# Altium integrated library Protel DOS Schematic Libraries.IntLib: 1273 symbols (part 5 of 9)
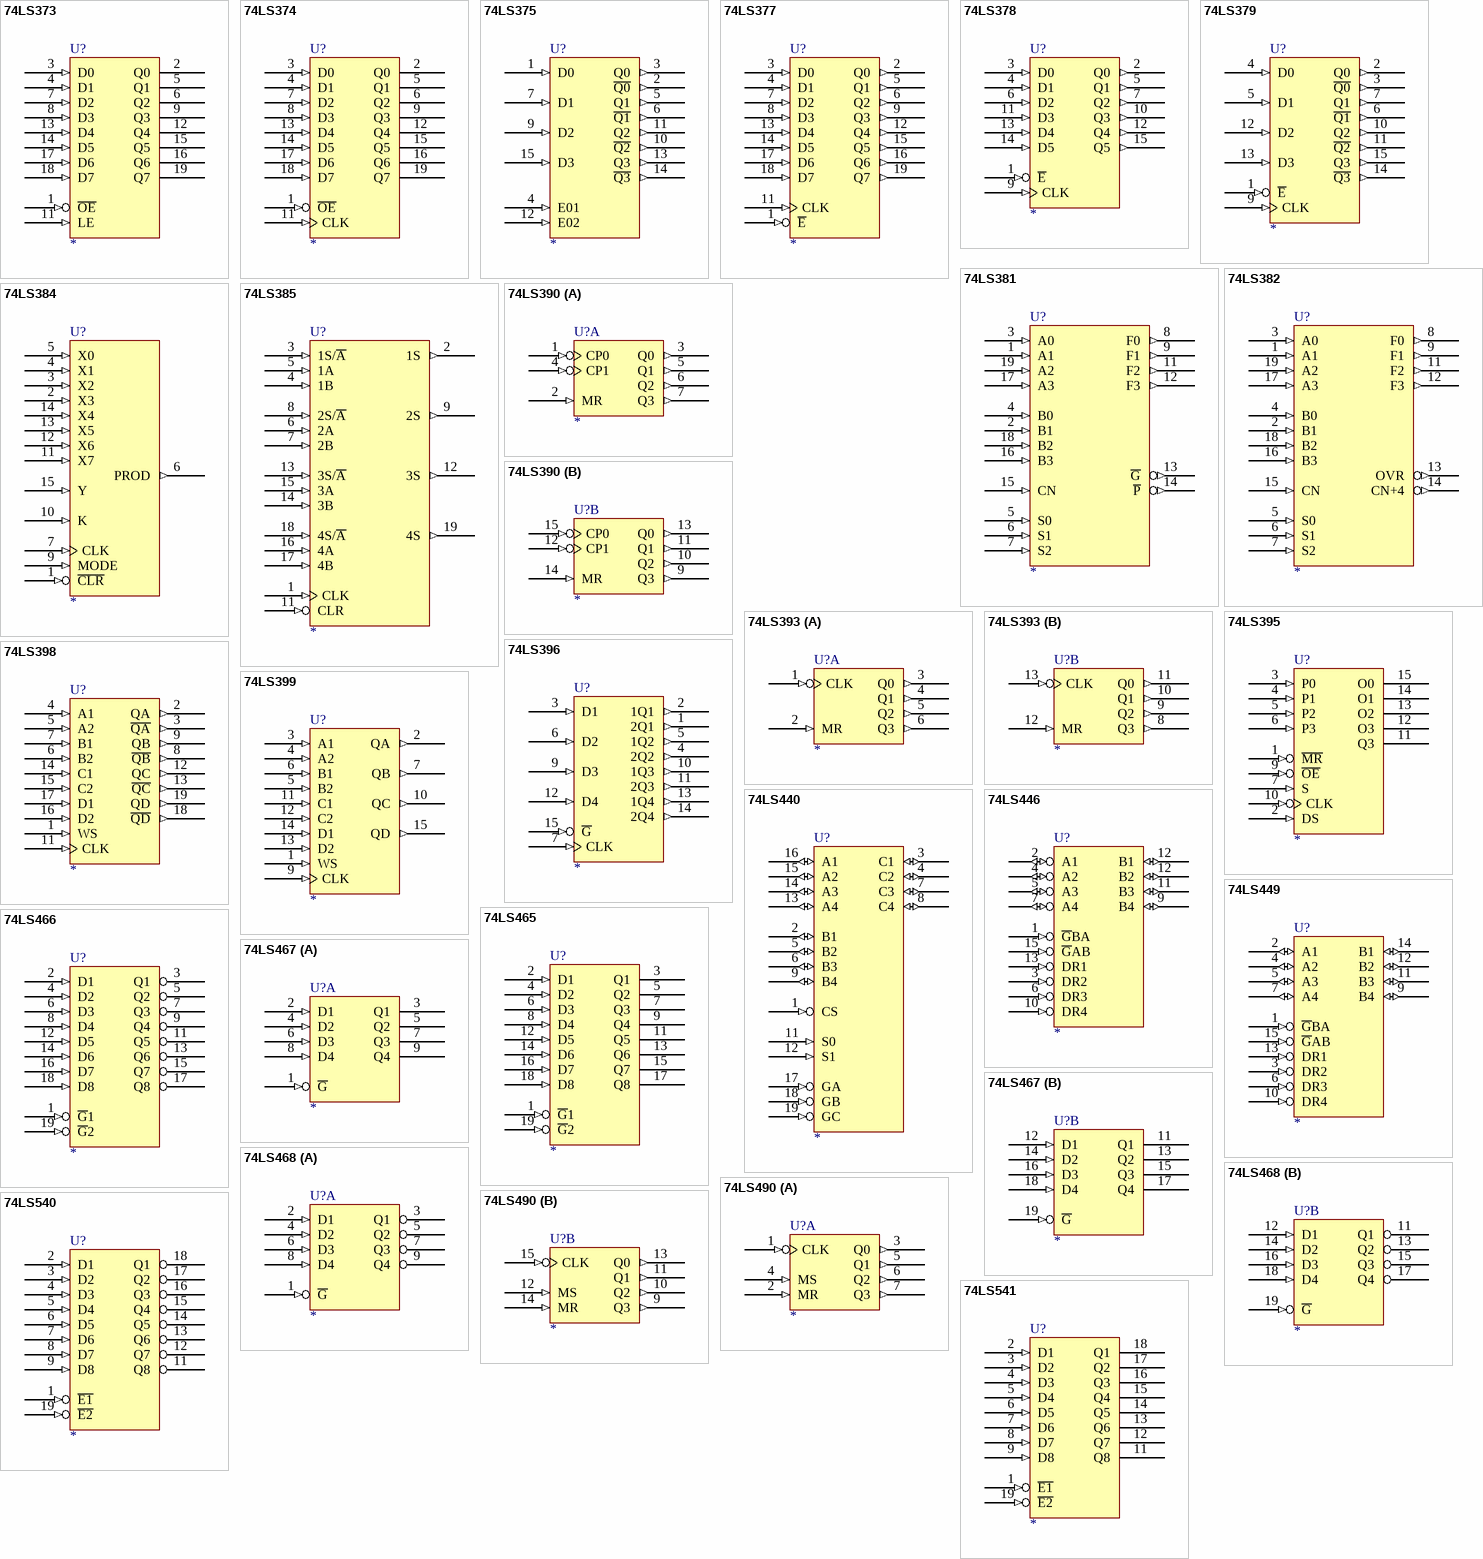
[diagram p73: symbols 74LS373 to 74LS541]

## 74LS384
designator U?
footprint DIP-16
pins: 1 ~{CLR} (in), 2 X3 (in), 3 X2 (in), 4 X1 (in), 5 X0 (in), 6 PROD (out), 7 CLK (in), 8 GND (power) hidden to GND, 9 MODE (in), 10 K (in), 11 X7 (in), 12 X6 (in), 13 X5 (in), 14 X4 (in), 15 Y (in), 16 VCC (power) hidden to VCC

## 74LS385
designator U?
footprint DIP-20
pins: 1 CLK (in), 2 1S (out), 3 1S/~{A} (in), 4 1B (in), 5 1A (in), 6 2A (in), 7 2B (in), 8 2S/~{A} (in), 9 2S (out), 10 GND (power) hidden to GND, 11 CLR (in), 12 3S (out), 13 3S/~{A} (in), 14 3B (in), 15 3A (in), 16 4A (in), 17 4B (in), 18 4S/~{A} (in), 19 4S (out), 20 VCC (power) hidden to VCC

## 74LS390
designator U?
footprint DIP-16
part A pins: 1 CP0 (in), 2 MR (in), 3 Q0 (out), 4 CP1 (in), 5 Q1 (out), 6 Q2 (out), 7 Q3 (out), 8 GND (power) hidden to GND, 16 VCC (power) hidden to VCC
part B pins: 8 GND (power) hidden to GND, 9 Q3 (out), 10 Q2 (out), 11 Q1 (out), 12 CP1 (in), 13 Q0 (out), 14 MR (in), 15 CP0 (in), 16 VCC (power) hidden to VCC

## 74LS393
designator U?
footprint DIP-14
part A pins: 1 CLK (in), 2 MR (in), 3 Q0 (out), 4 Q1 (out), 5 Q2 (out), 6 Q3 (out), 7 GND (power) hidden to GND, 14 VCC (power) hidden to VCC
part B pins: 7 GND (power) hidden to GND, 8 Q3 (out), 9 Q2 (out), 10 Q1 (out), 11 Q0 (out), 12 MR (in), 13 CLK (in), 14 VCC (power) hidden to VCC

## 74LS395
designator U?
footprint DIP-14
pins: 1 ~{MR} (in), 2 DS (in), 3 P0 (in), 4 P1 (in), 5 P2 (in), 6 P3 (in), 7 S (in), 8 GND (power) hidden to GND, 9 ~{OE} (in), 10 CLK (in), 11 Q3 (hiz), 12 O3 (hiz), 13 O2 (hiz), 14 O1 (hiz), 15 O0 (hiz), 16 VCC (power) hidden to VCC

## 74LS396
designator U?
footprint DIP-14
pins: 1 2Q1 (out), 2 1Q1 (out), 3 D1 (in), 4 2Q2 (out), 5 1Q2 (out), 6 D2 (in), 7 CLK (in), 8 GND (power) hidden to GND, 9 D3 (in), 10 1Q3 (out), 11 2Q3 (out), 12 D4 (in), 13 1Q4 (out), 14 2Q4 (out), 15 ~{G} (in), 16 VCC (power) hidden to VCC

## 74LS398
designator U?
footprint DIP-20
pins: 1 WS (in), 2 QA (out), 3 ~{QA} (out), 4 A1 (in), 5 A2 (in), 6 B2 (in), 7 B1 (in), 8 ~{QB} (out), 9 QB (out), 10 GND (power) hidden to GND, 11 CLK (in), 12 QC (out), 13 ~{QC} (out), 14 C1 (in), 15 C2 (in), 16 D2 (in), 17 D1 (in), 18 ~{QD} (out), 19 QD (out), 20 VCC (power) hidden to VCC

## 74LS399
designator U?
footprint DIP-16
pins: 1 WS (in), 2 QA (out), 3 A1 (in), 4 A2 (in), 5 B2 (in), 6 B1 (in), 7 QB (out), 8 GND (power) hidden to GND, 9 CLK (in), 10 QC (out), 11 C1 (in), 12 C2 (in), 13 D2 (in), 14 D1 (in), 15 QD (out), 16 VCC (power) hidden to VCC

## 74LS440
designator U?
footprint DIP-20
pins: 1 CS (in), 2 B1 (io), 3 C1 (io), 4 C2 (io), 5 B2 (io), 6 B3 (io), 7 C3 (io), 8 C4 (io), 9 B4 (io), 10 GND (power) hidden to GND, 11 S0 (in), 12 S1 (in), 13 A4 (io), 14 A3 (io), 15 A2 (io), 16 A1 (io), 17 GA (in), 18 GB (in), 19 GC (in), 20 VCC (power) hidden to VCC

## 74LS446
designator U?
footprint DIP-16
pins: 1 ~{G}BA (in), 2 A1 (io), 3 DR2 (in), 4 A2 (io), 5 A3 (io), 6 DR3 (in), 7 A4 (io), 8 GND (power) hidden to GND, 9 B4 (io), 10 DR4 (in), 11 B3 (io), 12 B1 (io), 12 B2 (io), 13 DR1 (in), 15 ~{G}AB (in), 16 VCC (power) hidden to VCC

## 74LS449
designator U?
footprint DIP-16
pins: 1 ~{G}BA (in), 2 A1 (io), 3 DR2 (in), 4 A2 (io), 5 A3 (io), 6 DR3 (in), 7 A4 (io), 8 GND (power) hidden to GND, 9 B4 (io), 10 DR4 (in), 11 B3 (io), 12 B2 (io), 13 DR1 (in), 14 B1 (io), 15 ~{G}AB (in), 16 VCC (power) hidden to VCC

## 74LS465
designator U?
footprint DIP-20
pins: 1 ~{G}1 (in), 2 D1 (in), 3 Q1 (hiz), 4 D2 (in), 5 Q2 (hiz), 6 D3 (in), 7 Q3 (hiz), 8 D4 (in), 9 Q4 (hiz), 10 GND (power) hidden to GND, 11 Q5 (hiz), 12 D5 (in), 13 Q6 (hiz), 14 D6 (in), 15 Q7 (hiz), 16 D7 (in), 17 Q8 (hiz), 18 D8 (in), 19 ~{G}2 (in), 20 VCC (power) hidden to VCC

## 74LS466
designator U?
footprint DIP-20
pins: 1 ~{G}1 (in), 2 D1 (in), 3 Q1 (hiz), 4 D2 (in), 5 Q2 (hiz), 6 D3 (in), 7 Q3 (hiz), 8 D4 (in), 9 Q4 (hiz), 10 GND (power) hidden to GND, 11 Q5 (hiz), 12 D5 (in), 13 Q6 (hiz), 14 D6 (in), 15 Q7 (hiz), 16 D7 (in), 17 Q8 (hiz), 18 D8 (in), 19 ~{G}2 (in), 20 VCC (power) hidden to VCC

## 74LS467
designator U?
footprint DIP-20
part A pins: 1 ~{G} (in), 2 D1 (in), 3 Q1 (hiz), 4 D2 (in), 5 Q2 (hiz), 6 D3 (in), 7 Q3 (hiz), 8 D4 (in), 9 Q4 (hiz), 10 GND (power) hidden to GND, 20 VCC (power) hidden to VCC
part B pins: 10 GND (power) hidden to GND, 11 Q1 (hiz), 12 D1 (in), 13 Q2 (hiz), 14 D2 (in), 15 Q3 (hiz), 16 D3 (in), 17 Q4 (hiz), 18 D4 (in), 19 ~{G} (in), 20 VCC (power) hidden to VCC

## 74LS468
designator U?
footprint DIP-20
part A pins: 1 ~{G} (in), 2 D1 (in), 3 Q1 (hiz), 4 D2 (in), 5 Q2 (hiz), 6 D3 (in), 7 Q3 (hiz), 8 D4 (in), 9 Q4 (hiz), 10 GND (power) hidden to GND, 20 VCC (power) hidden to VCC
part B pins: 10 GND (power) hidden to GND, 11 Q1 (hiz), 12 D1 (in), 13 Q2 (hiz), 14 D2 (in), 15 Q3 (hiz), 16 D3 (in), 17 Q4 (hiz), 18 D4 (in), 19 ~{G} (in), 20 VCC (power) hidden to VCC

## 74LS490
designator U?
footprint DIP-16
part A pins: 1 CLK (in), 2 MR (in), 3 Q0 (out), 4 MS (in), 5 Q1 (out), 6 Q2 (out), 7 Q3 (out), 8 GND (power) hidden to GND, 16 VCC (power) hidden to VCC
part B pins: 8 GND (power) hidden to GND, 9 Q3 (out), 10 Q2 (out), 11 Q1 (out), 12 MS (in), 13 Q0 (out), 14 MR (in), 15 CLK (in), 16 VCC (power) hidden to VCC

## 74LS540
designator U?
footprint DIP-20
pins: 1 ~{E1} (in), 2 D1 (in), 3 D2 (in), 4 D3 (in), 5 D4 (in), 6 D5 (in), 7 D6 (in), 8 D7 (in), 9 D8 (in), 10 GND (power) hidden to GND, 11 Q8 (hiz), 12 Q7 (hiz), 13 Q6 (hiz), 14 Q5 (hiz), 15 Q4 (hiz), 16 Q3 (hiz), 17 Q2 (hiz), 18 Q1 (hiz), 19 ~{E2} (in), 20 VCC (power) hidden to VCC

## 74LS541
designator U?
footprint DIP-20
pins: 1 ~{E1} (in), 2 D1 (in), 3 D2 (in), 4 D3 (in), 5 D4 (in), 6 D5 (in), 7 D6 (in), 8 D7 (in), 9 D8 (in), 10 GND (power) hidden to GND, 11 Q8 (hiz), 12 Q7 (hiz), 13 Q6 (hiz), 14 Q5 (hiz), 15 Q4 (hiz), 16 Q3 (hiz), 17 Q2 (hiz), 18 Q1 (hiz), 19 ~{E2} (in), 20 VCC (power) hidden to VCC

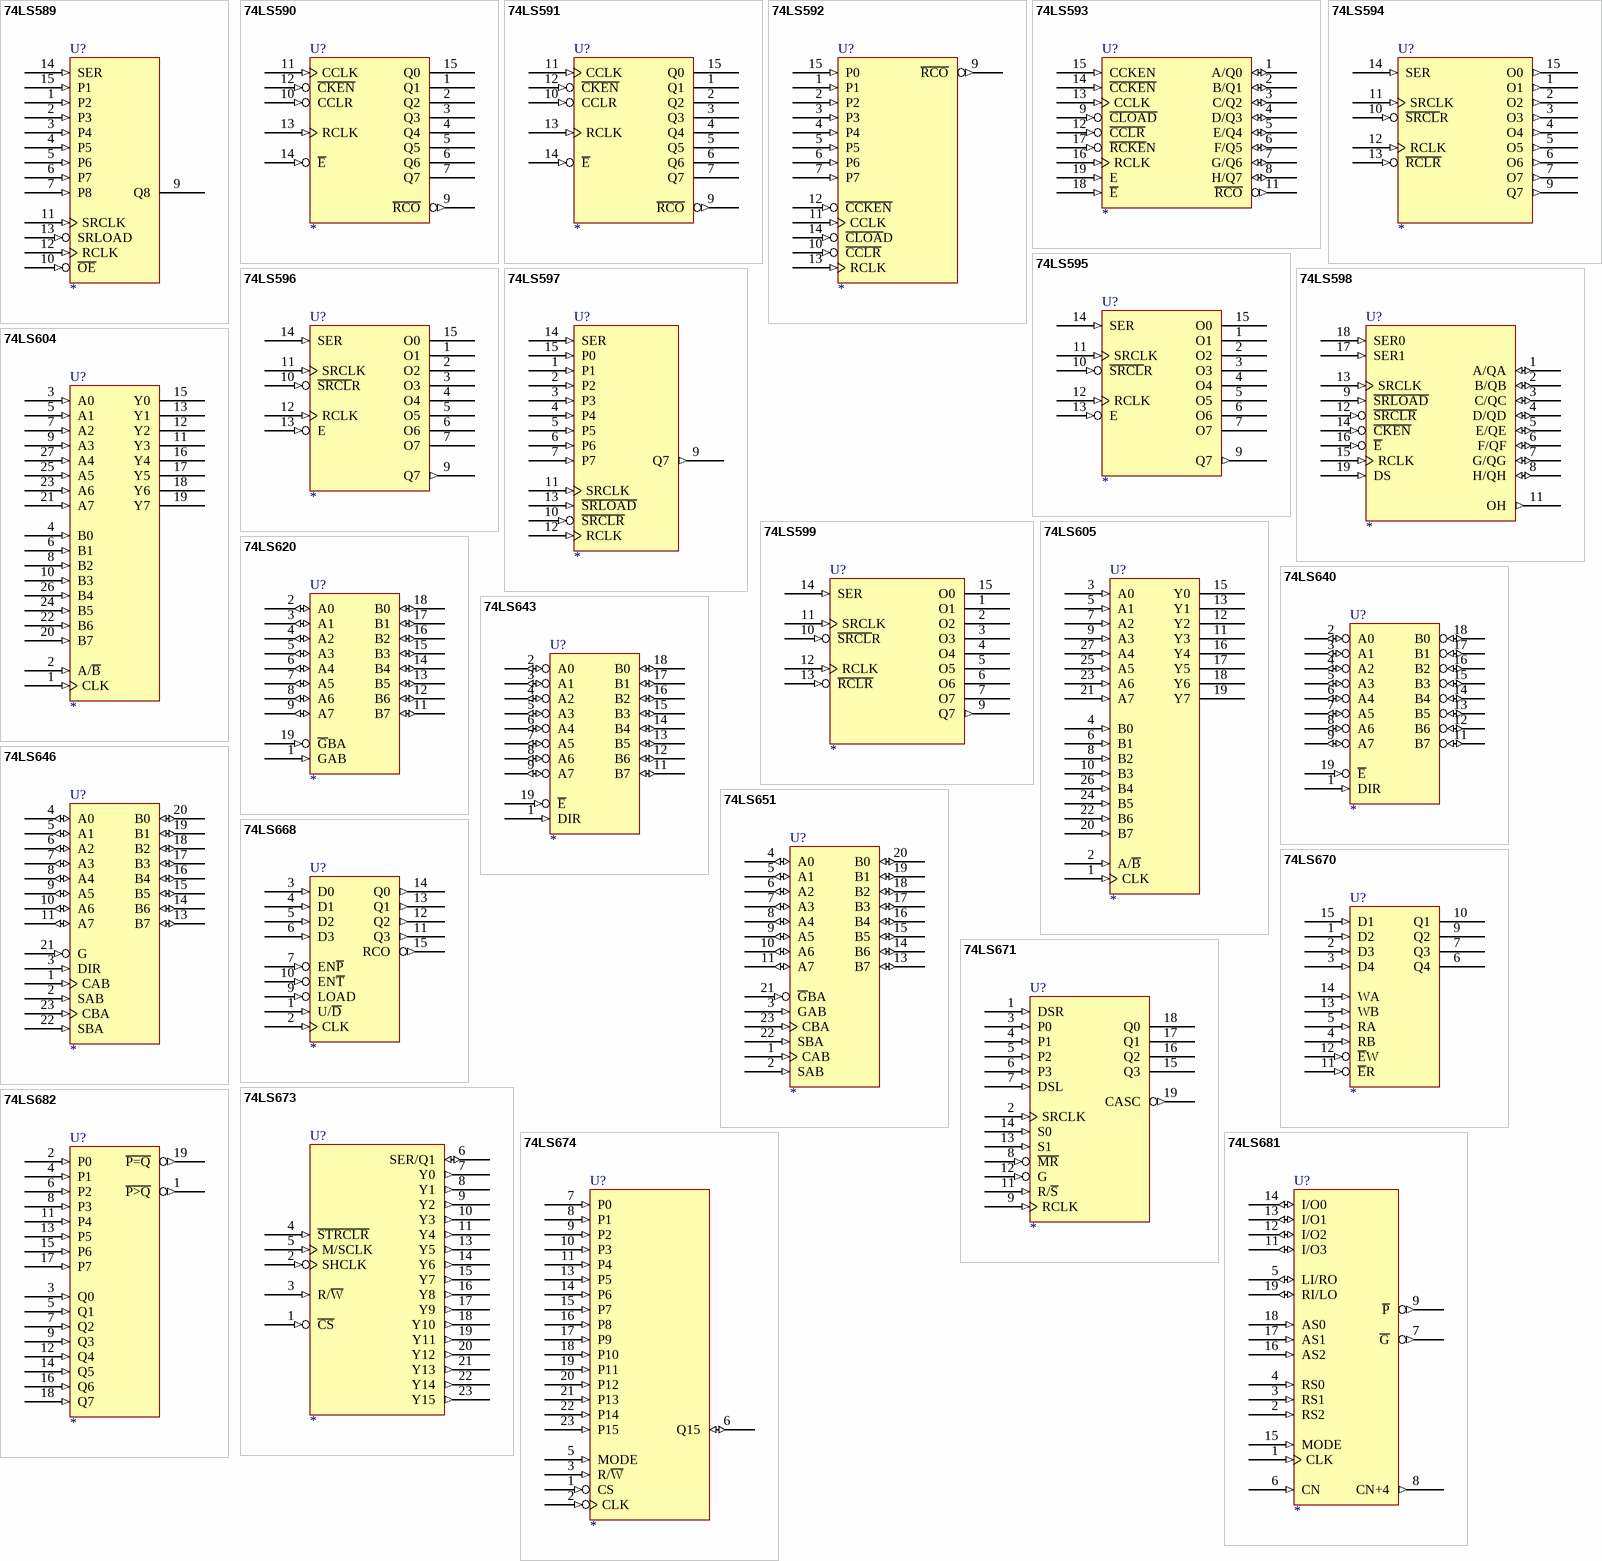
[diagram p33: symbols 74LS589 to 74LS682]

## 74LS589
designator U?
footprint DIP-16
pins: 1 P2 (in), 2 P3 (in), 3 P4 (in), 4 P5 (in), 5 P6 (in), 6 P7 (in), 7 P8 (in), 8 GND (power) hidden to GND, 9 Q8 (hiz), 10 ~{OE} (in), 11 SRCLK (in), 12 RCLK (in), 13 SRLOAD (in), 14 SER (in), 15 P1 (in), 16 VCC (power) hidden to VCC

## 74LS590
designator U?
footprint DIP-16
pins: 1 Q1 (hiz), 2 Q2 (hiz), 3 Q3 (hiz), 4 Q4 (hiz), 5 Q5 (hiz), 6 Q6 (hiz), 7 Q7 (hiz), 8 GND (power) hidden to GND, 9 ~{RCO} (out), 10 CCLR (in), 11 CCLK (in), 12 ~{CKEN} (in), 13 RCLK (in), 14 ~{E} (in), 15 Q0 (hiz), 16 VCC (power) hidden to VCC

## 74LS591
designator U?
footprint DIP-16
pins: 1 Q1 (oc), 2 Q2 (oc), 3 Q3 (oc), 4 Q4 (oc), 5 Q5 (oc), 6 Q6 (oc), 7 Q7 (oc), 8 GND (power) hidden to GND, 9 ~{RCO} (out), 10 CCLR (in), 11 CCLK (in), 12 ~{CKEN} (in), 13 RCLK (in), 14 ~{E} (in), 15 Q0 (oc), 16 VCC (power) hidden to VCC

## 74LS592
designator U?
footprint DIP-16
pins: 1 P1 (in), 2 P2 (in), 3 P3 (in), 4 P4 (in), 5 P5 (in), 6 P6 (in), 7 P7 (in), 8 GND (power) hidden to GND, 9 ~{RCO} (out), 10 ~{CCLR} (in), 11 CCLK (in), 12 ~{CCKEN} (in), 13 RCLK (in), 14 ~{CLOA}D (in), 15 P0 (in), 16 VCC (power) hidden to VCC

## 74LS593
designator U?
footprint DIP-20
pins: 1 A/Q0 (io), 2 B/Q1 (io), 3 C/Q2 (io), 4 D/Q3 (io), 5 E/Q4 (io), 6 F/Q5 (io), 7 G/Q6 (io), 8 H/Q7 (io), 9 ~{CLOAD} (in), 10 GND (power) hidden to GND, 11 ~{RCO} (out), 12 ~{CCLR} (in), 13 CCLK (in), 14 ~{CCKEN} (in), 15 CCKEN (in), 16 RCLK (in), 17 ~{RCKE}N (in), 18 ~{E} (in), 19 E (in), 20 VCC (power) hidden to VCC

## 74LS594
designator U?
footprint DIP-16
pins: 1 O1 (out), 2 O2 (out), 3 O3 (out), 4 O4 (out), 5 O5 (out), 6 O6 (out), 7 O7 (out), 8 GND (power) hidden to GND, 9 Q7 (out), 10 ~{SRCL}R (in), 11 SRCLK (in), 12 RCLK (in), 13 ~{RCLR} (in), 14 SER (in), 15 O0 (out), 16 VCC (power) hidden to VCC

## 74LS595
designator U?
footprint DIP-16
pins: 1 O1 (hiz), 2 O2 (hiz), 3 O3 (hiz), 4 O4 (hiz), 5 O5 (hiz), 6 O6 (hiz), 7 O7 (hiz), 8 GND (power) hidden to GND, 9 Q7 (out), 10 ~{SRCL}R (in), 11 SRCLK (in), 12 RCLK (in), 13 E (in), 14 SER (in), 15 O0 (hiz), 16 VCC (power) hidden to VCC

## 74LS596
designator U?
footprint DIP-16
pins: 1 O1 (oc), 2 O2 (oc), 3 O3 (oc), 4 O4 (oc), 5 O5 (oc), 6 O6 (oc), 7 O7 (oc), 8 GND (power) hidden to GND, 9 Q7 (out), 10 ~{SRCL}R (in), 11 SRCLK (in), 12 RCLK (in), 13 E (in), 14 SER (in), 15 O0 (oc), 16 VCC (power) hidden to VCC

## 74LS597
designator U?
footprint DIP-16
pins: 1 P1 (in), 2 P2 (in), 3 P3 (in), 4 P4 (in), 5 P5 (in), 6 P6 (in), 7 P7 (in), 8 GND (power) hidden to GND, 9 Q7 (out), 10 ~{SRCLR} (in), 11 SRCLK (in), 12 RCLK (in), 13 ~{SRLOAD} (in), 14 SER (in), 15 P0 (in), 16 VCC (power) hidden to VCC

## 74LS598
designator U?
footprint DIP-20
pins: 1 A/QA (io), 2 B/QB (io), 3 C/QC (io), 4 D/QD (io), 5 E/QE (io), 6 F/QF (io), 7 G/QG (io), 8 H/QH (io), 9 ~{SRLOAD} (in), 10 GND (power) hidden to GND, 11 OH (out), 12 ~{SRCLR} (in), 13 SRCLK (in), 14 ~{CKEN} (in), 15 RCLK (in), 16 ~{E} (in), 17 SER1 (in), 18 SER0 (in), 19 DS (in), 20 VCC (power) hidden to VCC

## 74LS599
designator U?
footprint DIP-16
pins: 1 O1 (oc), 2 O2 (oc), 3 O3 (oc), 4 O4 (oc), 5 O5 (oc), 6 O6 (oc), 7 O7 (oc), 8 GND (power) hidden to GND, 9 Q7 (out), 10 ~{SRCL}R (in), 11 SRCLK (in), 12 RCLK (in), 13 ~{RCLR} (in), 14 SER (in), 15 O0 (oc), 16 VCC (power) hidden to VCC

## 74LS604
designator U?
footprint DIP-28
pins: 1 CLK (in), 2 A/~{B} (in), 3 A0 (in), 4 B0 (in), 5 A1 (in), 6 B1 (in), 7 A2 (in), 8 B2 (in), 9 A3 (in), 10 B3 (in), 11 Y3 (hiz), 12 Y2 (hiz), 13 Y1 (hiz), 14 GND (power) hidden to GND, 15 Y0 (hiz), 16 Y4 (hiz), 17 Y5 (hiz), 18 Y6 (hiz), 19 Y7 (hiz), 20 B7 (in), 21 A7 (in), 22 B6 (in), 23 A6 (in), 24 B5 (in), 25 A5 (in), 26 B4 (in), 27 A4 (in), 28 VCC (power) hidden to VCC

## 74LS605
designator U?
footprint DIP-28
pins: 1 CLK (in), 2 A/~{B} (in), 3 A0 (in), 4 B0 (in), 5 A1 (in), 6 B1 (in), 7 A2 (in), 8 B2 (in), 9 A3 (in), 10 B3 (in), 11 Y3 (oc), 12 Y2 (oc), 13 Y1 (oc), 14 GND (power) hidden to GND, 15 Y0 (oc), 16 Y4 (oc), 17 Y5 (oc), 18 Y6 (oc), 19 Y7 (oc), 20 B7 (in), 21 A7 (in), 22 B6 (in), 23 A6 (in), 24 B5 (in), 25 A5 (in), 26 B4 (in), 27 A4 (in), 28 VCC (power) hidden to VCC

## 74LS620
designator U?
footprint DIP-20
pins: 1 GAB (in), 2 A0 (io), 3 A1 (io), 4 A2 (io), 5 A3 (io), 6 A4 (io), 7 A5 (io), 8 A6 (io), 9 A7 (io), 10 GND (power) hidden to GND, 11 B7 (io), 12 B6 (io), 13 B5 (io), 14 B4 (io), 15 B3 (io), 16 B2 (io), 17 B1 (io), 18 B0 (io), 19 ~{G}BA (in), 20 VCC (power) hidden to VCC

## 74LS640
designator U?
footprint DIP-20
pins: 1 DIR (in), 2 A0 (io), 3 A1 (io), 4 A2 (io), 5 A3 (io), 6 A4 (io), 7 A5 (io), 8 A6 (io), 9 A7 (io), 10 GND (power) hidden to GND, 11 B7 (io), 12 B6 (io), 13 B5 (io), 14 B4 (io), 15 B3 (io), 16 B2 (io), 17 B1 (io), 18 B0 (io), 19 ~{E} (in), 20 VCC (power) hidden to VCC

## 74LS643
designator U?
footprint DIP-20
pins: 1 DIR (in), 2 A0 (io), 3 A1 (io), 4 A2 (io), 5 A3 (io), 6 A4 (io), 7 A5 (io), 8 A6 (io), 9 A7 (io), 10 GND (power) hidden to GND, 11 B7 (io), 12 B6 (io), 13 B5 (io), 14 B4 (io), 15 B3 (io), 16 B2 (io), 17 B1 (io), 18 B0 (io), 19 ~{E} (in), 20 VCC (power) hidden to VCC

## 74LS646
designator U?
footprint DIP-24
pins: 1 CAB (in), 2 SAB (in), 3 DIR (in), 4 A0 (io), 5 A1 (io), 6 A2 (io), 7 A3 (io), 8 A4 (io), 9 A5 (io), 10 A6 (io), 11 A7 (io), 12 GND (power) hidden to GND, 13 B7 (io), 14 B6 (io), 15 B5 (io), 16 B4 (io), 17 B3 (io), 18 B2 (io), 19 B1 (io), 20 B0 (io), 21 G (in), 22 SBA (in), 23 CBA (in), 24 VCC (power) hidden to VCC

## 74LS651
designator U?
footprint DIP-24
pins: 1 CAB (in), 2 SAB (in), 3 GAB (in), 4 A0 (io), 5 A1 (io), 6 A2 (io), 7 A3 (io), 8 A4 (io), 9 A5 (io), 10 A6 (io), 11 A7 (io), 12 GND (power) hidden to GND, 13 B7 (io), 14 B6 (io), 15 B5 (io), 16 B4 (io), 17 B3 (io), 18 B2 (io), 19 B1 (io), 20 B0 (io), 21 ~{G}BA (in), 22 SBA (in), 23 CBA (in), 24 VCC (power) hidden to VCC

## 74LS668
designator U?
footprint DIP-16
pins: 1 U/~{D} (in), 2 CLK (in), 3 D0 (in), 4 D1 (in), 5 D2 (in), 6 D3 (in), 7 EN~{P} (in), 8 GND (power) hidden to GND, 9 LOAD (in), 10 EN~{T} (in), 11 Q3 (out), 12 Q2 (out), 13 Q1 (out), 14 Q0 (out), 15 RCO (out), 16 VCC (power) hidden to VCC

## 74LS670
designator U?
footprint DIP-16
pins: 1 D2 (in), 2 D3 (in), 3 D4 (in), 4 RB (in), 5 RA (in), 6 Q4 (hiz), 7 Q3 (hiz), 8 GND (power) hidden to GND, 9 Q2 (hiz), 10 Q1 (hiz), 11 ~{E}R (in), 12 ~{E}W (in), 13 WB (in), 14 WA (in), 15 D1 (in), 16 VCC (power) hidden to VCC

## 74LS671
designator U?
footprint DIP-20
pins: 1 DSR (in), 2 SRCLK (in), 3 P0 (in), 4 P1 (in), 5 P2 (in), 6 P3 (in), 7 DSL (in), 8 ~{MR} (in), 9 RCLK (in), 10 GND (power) hidden to GND, 11 R/~{S} (in), 12 G (in), 13 S1 (in), 14 S0 (in), 15 Q3 (hiz), 16 Q2 (hiz), 17 Q1 (hiz), 18 Q0 (hiz), 19 CASC (out), 20 VCC (power) hidden to VCC

## 74LS673
designator U?
footprint DIP-24
pins: 1 ~{CS} (in), 2 SHCLK (in), 3 R/~{W} (in), 4 ~{STRCLR} (in), 5 M/SCLK (in), 6 SER/Q1 (io), 7 Y0 (out), 8 Y1 (out), 9 Y2 (out), 10 Y3 (out), 11 Y4 (out), 12 GND (power) hidden to GND, 13 Y5 (out), 14 Y6 (out), 15 Y7 (out), 16 Y8 (out), 17 Y9 (out), 18 Y10 (out), 19 Y11 (out), 20 Y12 (out), 21 Y13 (out), 22 Y14 (out), 23 Y15 (out), 24 VCC (power) hidden to VCC

## 74LS674
designator U?
footprint DIP-24
pins: 1 CS (in), 2 CLK (in), 3 R/~{W} (in), 5 MODE (in), 6 Q15 (io), 7 P0 (in), 8 P1 (in), 9 P2 (in), 10 P3 (in), 11 P4 (in), 12 GND (power) hidden to GND, 13 P5 (in), 14 P6 (in), 15 P7 (in), 16 P8 (in), 17 P9 (in), 18 P10 (in), 19 P11 (in), 20 P12 (in), 21 P13 (in), 22 P14 (in), 23 P15 (in), 24 VCC (power) hidden to VCC

## 74LS681
designator U?
footprint DIP-20
pins: 1 CLK (in), 2 RS2 (in), 3 RS1 (in), 4 RS0 (in), 5 LI/RO (io), 6 CN (in), 7 ~{G} (out), 8 CN+4 (out), 9 ~{P} (out), 10 GND (power) hidden to GND, 11 I/O3 (io), 12 I/O2 (io), 13 I/O1 (io), 14 I/O0 (io), 15 MODE (in), 16 AS2 (in), 17 AS1 (in), 18 AS0 (in), 19 RI/LO (io), 20 VCC (power) hidden to VCC

## 74LS682
designator U?
footprint DIP-20
pins: 1 ~{P>Q} (out), 2 P0 (in), 3 Q0 (in), 4 P1 (in), 5 Q1 (in), 6 P2 (in), 7 Q2 (in), 8 P3 (in), 9 Q3 (in), 10 GND (power) hidden to GND, 11 P4 (in), 12 Q4 (in), 13 P5 (in), 14 Q5 (in), 15 P6 (in), 16 Q6 (in), 17 P7 (in), 18 Q7 (in), 19 ~{P=Q} (out), 20 VCC (power) hidden to VCC

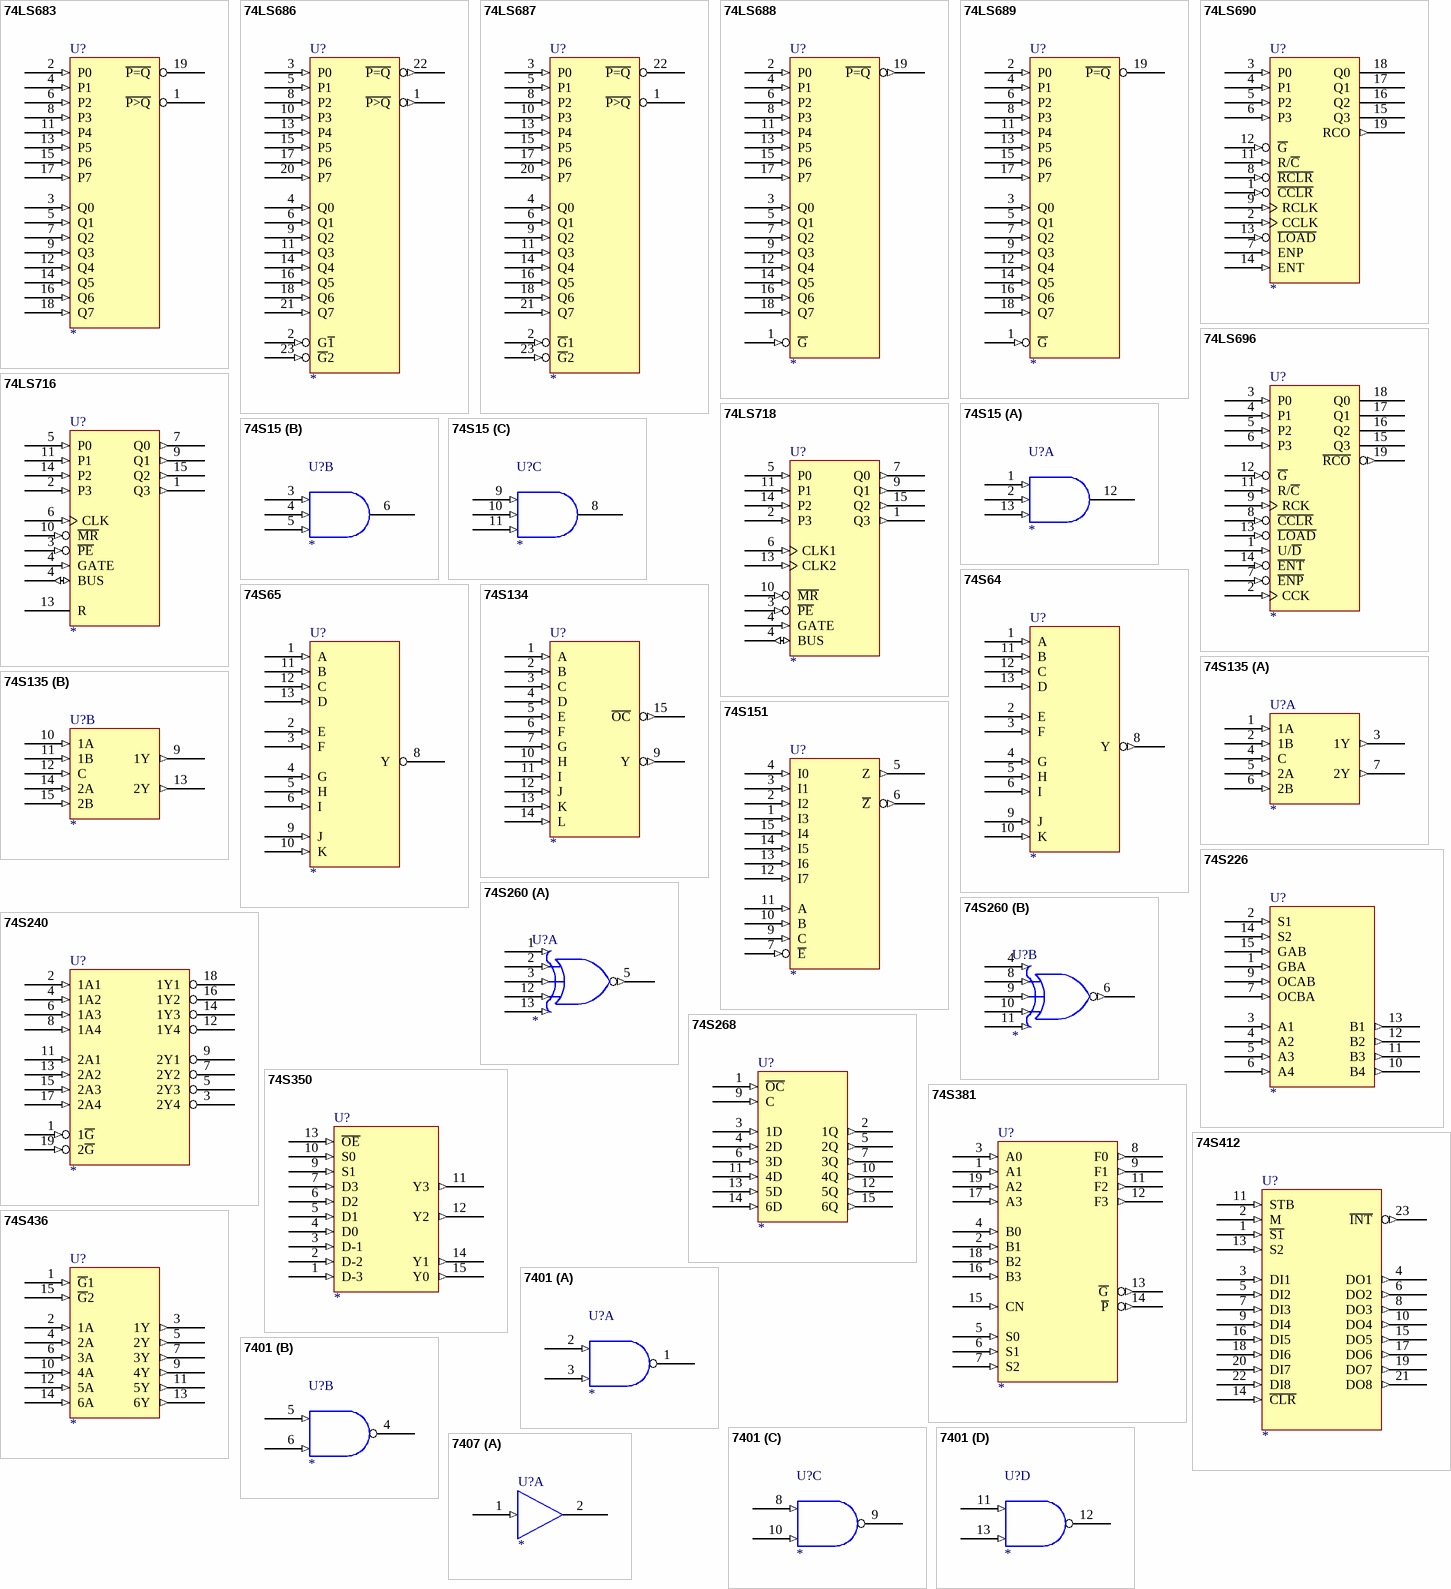
[diagram p34: symbols 74LS683 to 7407]

## 74LS683
designator U?
footprint DIP-20
pins: 1 ~{P>Q} (oc), 2 P0 (in), 3 Q0 (in), 4 P1 (in), 5 Q1 (in), 6 P2 (in), 7 Q2 (in), 8 P3 (in), 9 Q3 (in), 10 GND (power) hidden to GND, 11 P4 (in), 12 Q4 (in), 13 P5 (in), 14 Q5 (in), 15 P6 (in), 16 Q6 (in), 17 P7 (in), 18 Q7 (in), 19 ~{P=Q} (oc), 20 VCC (power) hidden to VCC

## 74LS686
designator U?
footprint DIP-24
pins: 1 ~{P>Q} (out), 2 G~{1} (in), 3 P0 (in), 4 Q0 (in), 5 P1 (in), 6 Q1 (in), 8 P2 (in), 9 Q2 (in), 10 P3 (in), 11 Q3 (in), 12 GND (power) hidden to GND, 13 P4 (in), 14 Q4 (in), 15 P5 (in), 16 Q5 (in), 17 P6 (in), 18 Q6 (in), 20 P7 (in), 21 Q7 (in), 22 ~{P=Q} (out), 23 ~{G}2 (in), 24 VCC (power) hidden to VCC

## 74LS687
designator U?
footprint DIP-24
pins: 1 ~{P>Q} (oc), 2 ~{G}1 (in), 3 P0 (in), 4 Q0 (in), 5 P1 (in), 6 Q1 (in), 8 P2 (in), 9 Q2 (in), 10 P3 (in), 11 Q3 (in), 12 GND (power) hidden to GND, 13 P4 (in), 14 Q4 (in), 15 P5 (in), 16 Q5 (in), 17 P6 (in), 18 Q6 (in), 20 P7 (in), 21 Q7 (in), 22 ~{P=Q} (oc), 23 ~{G}2 (in), 24 VCC (power) hidden to VCC

## 74LS688
designator U?
footprint DIP-20
pins: 1 ~{G} (in), 2 P0 (in), 3 Q0 (in), 4 P1 (in), 5 Q1 (in), 6 P2 (in), 7 Q2 (in), 8 P3 (in), 9 Q3 (in), 10 GND (power) hidden to GND, 11 P4 (in), 12 Q4 (in), 13 P5 (in), 14 Q5 (in), 15 P6 (in), 16 Q6 (in), 17 P7 (in), 18 Q7 (in), 19 ~{P=Q} (out), 20 VCC (power) hidden to VCC

## 74LS689
designator U?
footprint DIP-20
pins: 1 ~{G} (in), 2 P0 (in), 3 Q0 (in), 4 P1 (in), 5 Q1 (in), 6 P2 (in), 7 Q2 (in), 8 P3 (in), 9 Q3 (in), 10 GND (power) hidden to GND, 11 P4 (in), 12 Q4 (in), 13 P5 (in), 14 Q5 (in), 15 P6 (in), 16 Q6 (in), 17 P7 (in), 18 Q7 (in), 19 ~{P=Q} (oc), 20 VCC (power) hidden to VCC

## 74LS690
designator U?
footprint DIP-20
pins: 1 ~{CCLR} (in), 2 CCLK (in), 3 P0 (in), 4 P1 (in), 5 P2 (in), 6 P3 (in), 7 ENP (in), 8 ~{RCLR} (in), 9 RCLK (in), 10 GND (power) hidden to GND, 11 R/~{C} (in), 12 ~{G} (in), 13 ~{LOAD} (in), 14 ENT (in), 15 Q3 (hiz), 16 Q2 (hiz), 17 Q1 (hiz), 18 Q0 (hiz), 19 RCO (out), 20 VCC (power) hidden to VCC

## 74LS696
designator U?
footprint DIP-20
pins: 1 U/~{D} (in), 2 CCK (in), 3 P0 (in), 4 P1 (in), 5 P2 (in), 6 P3 (in), 7 ~{ENP} (in), 8 ~{CCLR} (in), 9 RCK (in), 10 GND (power) hidden to GND, 11 R/~{C} (in), 12 ~{G} (in), 13 ~{LOAD} (in), 14 ~{ENT} (in), 15 Q3 (hiz), 16 Q2 (hiz), 17 Q1 (hiz), 18 Q0 (hiz), 19 ~{RCO} (out), 20 VCC (power) hidden to VCC

## 74LS716
designator U?
footprint DIP-16
pins: 1 Q3 (out), 2 P3 (in), 3 ~{PE} (in), 4 GATE (in), 4 BUS (io), 5 P0 (in), 6 CLK (in), 7 Q0 (out), 8 GND (power) hidden to GND, 9 Q1 (out), 10 ~{MR} (in), 11 P1 (in), 13 R, 14 P2 (in), 15 Q2 (out), 16 VCC (power) hidden to VCC

## 74LS718
designator U?
footprint DIP-16
pins: 1 Q3 (out), 2 P3 (in), 3 ~{PE} (in), 4 GATE (in), 4 BUS (io), 5 P0 (in), 6 CLK1 (in), 7 Q0 (out), 8 GND (power) hidden to GND, 9 Q1 (out), 10 ~{MR} (in), 11 P1 (in), 13 CLK2 (in), 14 P2 (in), 15 Q2 (out), 16 VCC (power) hidden to VCC

## 74S15
designator U?
footprint DIP-14
part A pins: 1 (in), 2 (in), 7 GND (power) hidden to GND, 12 (oc), 13 (in), 14 VCC (power) hidden to VCC
part B pins: 3 (in), 4 (in), 5 (in), 6 (oc), 7 GND (power) hidden to GND, 14 VCC (power) hidden to VCC
part C pins: 7 GND (power) hidden to GND, 8 (oc), 9 (in), 10 (in), 11 (in), 14 VCC (power) hidden to VCC

## 74S64
designator U?
footprint DIP-14
pins: 1 A (in), 2 E (in), 3 F (in), 4 G (in), 5 H (in), 6 I (in), 7 GND (power) hidden to GND, 8 Y (out), 9 J (in), 10 K (in), 11 B (in), 12 C (in), 13 D (in), 14 VCC (power) hidden to VCC

## 74S65
designator U?
footprint DIP-14
pins: 1 A (in), 2 E (in), 3 F (in), 4 G (in), 5 H (in), 6 I (in), 7 GND (power) hidden to GND, 8 Y (oc), 9 J (in), 10 K (in), 11 B (in), 12 C (in), 13 D (in), 14 VCC (power) hidden to VCC

## 74S134
designator U?
footprint DIP-16
pins: 1 A (in), 2 B (in), 3 C (in), 4 D (in), 5 E (in), 6 F (in), 7 G (in), 8 GND (power) hidden to GND, 9 Y (out), 10 H (in), 11 I (in), 12 J (in), 13 K (in), 14 L (in), 15 ~{OC} (out), 16 VCC (power) hidden to VCC

## 74S135
designator U?
footprint DIP-16
part A pins: 1 1A (in), 2 1B (in), 3 1Y (out), 4 C (in), 5 2A (in), 6 2B (in), 7 2Y (out), 8 GND (power) hidden to GND, 16 VCC (power) hidden to VCC
part B pins: 8 GND (power) hidden to GND, 9 1Y (out), 10 1A (in), 11 1B (in), 12 C (in), 13 2Y (out), 14 2A (in), 15 2B (in), 16 VCC (power) hidden to VCC

## 74S151
designator U?
footprint DIP-16
pins: 1 I3 (in), 2 I2 (in), 3 I1 (in), 4 I0 (in), 5 Z (out), 6 ~{Z} (out), 7 ~{E} (in), 8 GND (power) hidden to GND, 9 C (in), 10 B (in), 11 A (in), 12 I7 (in), 13 I6 (in), 14 I5 (in), 15 I4 (in), 16 VCC (power) hidden to VCC

## 74S226
designator U?
footprint DIP-16
pins: 1 GBA (in), 2 S1 (in), 3 A1 (in), 4 A2 (in), 5 A3 (in), 6 A4 (in), 7 OCBA (in), 8 GND (power) hidden to GND, 9 OCAB (in), 10 B4 (out), 11 B3 (out), 12 B2 (out), 13 B1 (out), 14 S2 (in), 15 GAB (in), 16 VCC (power) hidden to VCC

## 74S240
designator U?
footprint DIP-20
pins: 1 1~{G} (in), 2 1A1 (in), 3 2Y4 (hiz), 4 1A2 (in), 5 2Y3 (hiz), 6 1A3 (in), 7 2Y2 (hiz), 8 1A4 (in), 9 2Y1 (hiz), 10 GND (power) hidden to GND, 11 2A1 (in), 12 1Y4 (hiz), 13 2A2 (in), 14 1Y3 (hiz), 15 2A3 (in), 16 1Y2 (hiz), 17 2A4 (in), 18 1Y1 (hiz), 19 2~{G} (in), 20 VCC (power) hidden to VCC

## 74S260
designator U?
footprint DIP-14
part A pins: 1 (in), 2 (in), 3 (in), 5 (out), 7 GND (power) hidden to GND, 12 (in), 13 (in), 14 VCC (power) hidden to VCC
part B pins: 4 (in), 6 (out), 7 GND (power) hidden to GND, 8 (in), 9 (in), 10 (in), 11 (in), 14 VCC (power) hidden to VCC

## 74S268
designator U?
footprint DIP-16
pins: 1 ~{OC} (in), 2 1Q (out), 3 1D (in), 4 2D (in), 5 2Q (out), 6 3D (in), 7 3Q (out), 8 GND (power) hidden to GND, 9 C (in), 10 4Q (out), 11 4D (in), 12 5Q (out), 13 5D (in), 14 6D (in), 15 6Q (out), 16 VCC (power) hidden to VCC

## 74S350
designator U?
footprint DIP-16
pins: 1 D-3 (in), 2 D-2 (in), 3 D-1 (in), 4 D0 (in), 5 D1 (in), 6 D2 (in), 7 D3 (in), 8 GND (power) hidden to GND, 9 S1 (in), 10 S0 (in), 11 Y3 (out), 12 Y2 (out), 13 ~{OE} (in), 14 Y1 (out), 15 Y0 (out), 16 VCC (power) hidden to VCC

## 74S381
designator U?
footprint DIP-20
pins: 1 A1 (in), 2 B1 (in), 3 A0 (in), 4 B0 (in), 5 S0 (in), 6 S1 (in), 7 S2 (in), 8 F0 (out), 9 F1 (out), 10 GND (power) hidden to GND, 11 F2 (out), 12 F3 (out), 13 ~{G} (out), 14 ~{P} (out), 15 CN (in), 16 B3 (in), 17 A3 (in), 18 B2 (in), 19 A2 (in), 20 VCC (power) hidden to VCC

## 74S412
designator U?
footprint DIP-24
pins: 1 ~{S1} (in), 2 M (in), 3 DI1 (in), 4 DO1 (out), 5 DI2 (in), 6 DO2 (out), 7 DI3 (in), 8 DO3 (out), 9 DI4 (in), 10 DO4 (out), 11 STB (in), 12 GND (power) hidden to GND, 13 S2 (in), 14 ~{CLR} (in), 15 DO5 (out), 16 DI5 (in), 17 DO6 (out), 18 DI6 (in), 19 DO7 (out), 20 DI7 (in), 21 DO8 (out), 22 DI8 (in), 23 ~{INT} (out), 24 VCC (power) hidden to VCC

## 74S436
designator U?
footprint DIP-16
pins: 1 ~{G}1 (in), 2 1A (in), 3 1Y (out), 4 2A (in), 5 2Y (out), 6 3A (in), 7 3Y (out), 8 GND (power) hidden to GND, 9 4Y (out), 10 4A (in), 11 5Y (out), 12 5A (in), 13 6Y (out), 14 6A (in), 15 ~{G}2 (in), 16 VCC (power) hidden to VCC

## 7401
designator U?
footprint DIP-14
part A pins: 1 (oc), 2 (in), 3 (in), 7 GND (power) hidden to GND, 14 VCC (power) hidden to VCC
part B pins: 4 (oc), 5 (in), 6 (in), 7 GND (power) hidden to GND, 14 VCC (power) hidden to VCC
part C pins: 7 GND (power) hidden to GND, 8 (in), 9 (oc), 10 (in), 14 VCC (power) hidden to VCC
part D pins: 7 GND (power) hidden to GND, 11 (in), 12 (oc), 13 (in), 14 VCC (power) hidden to VCC

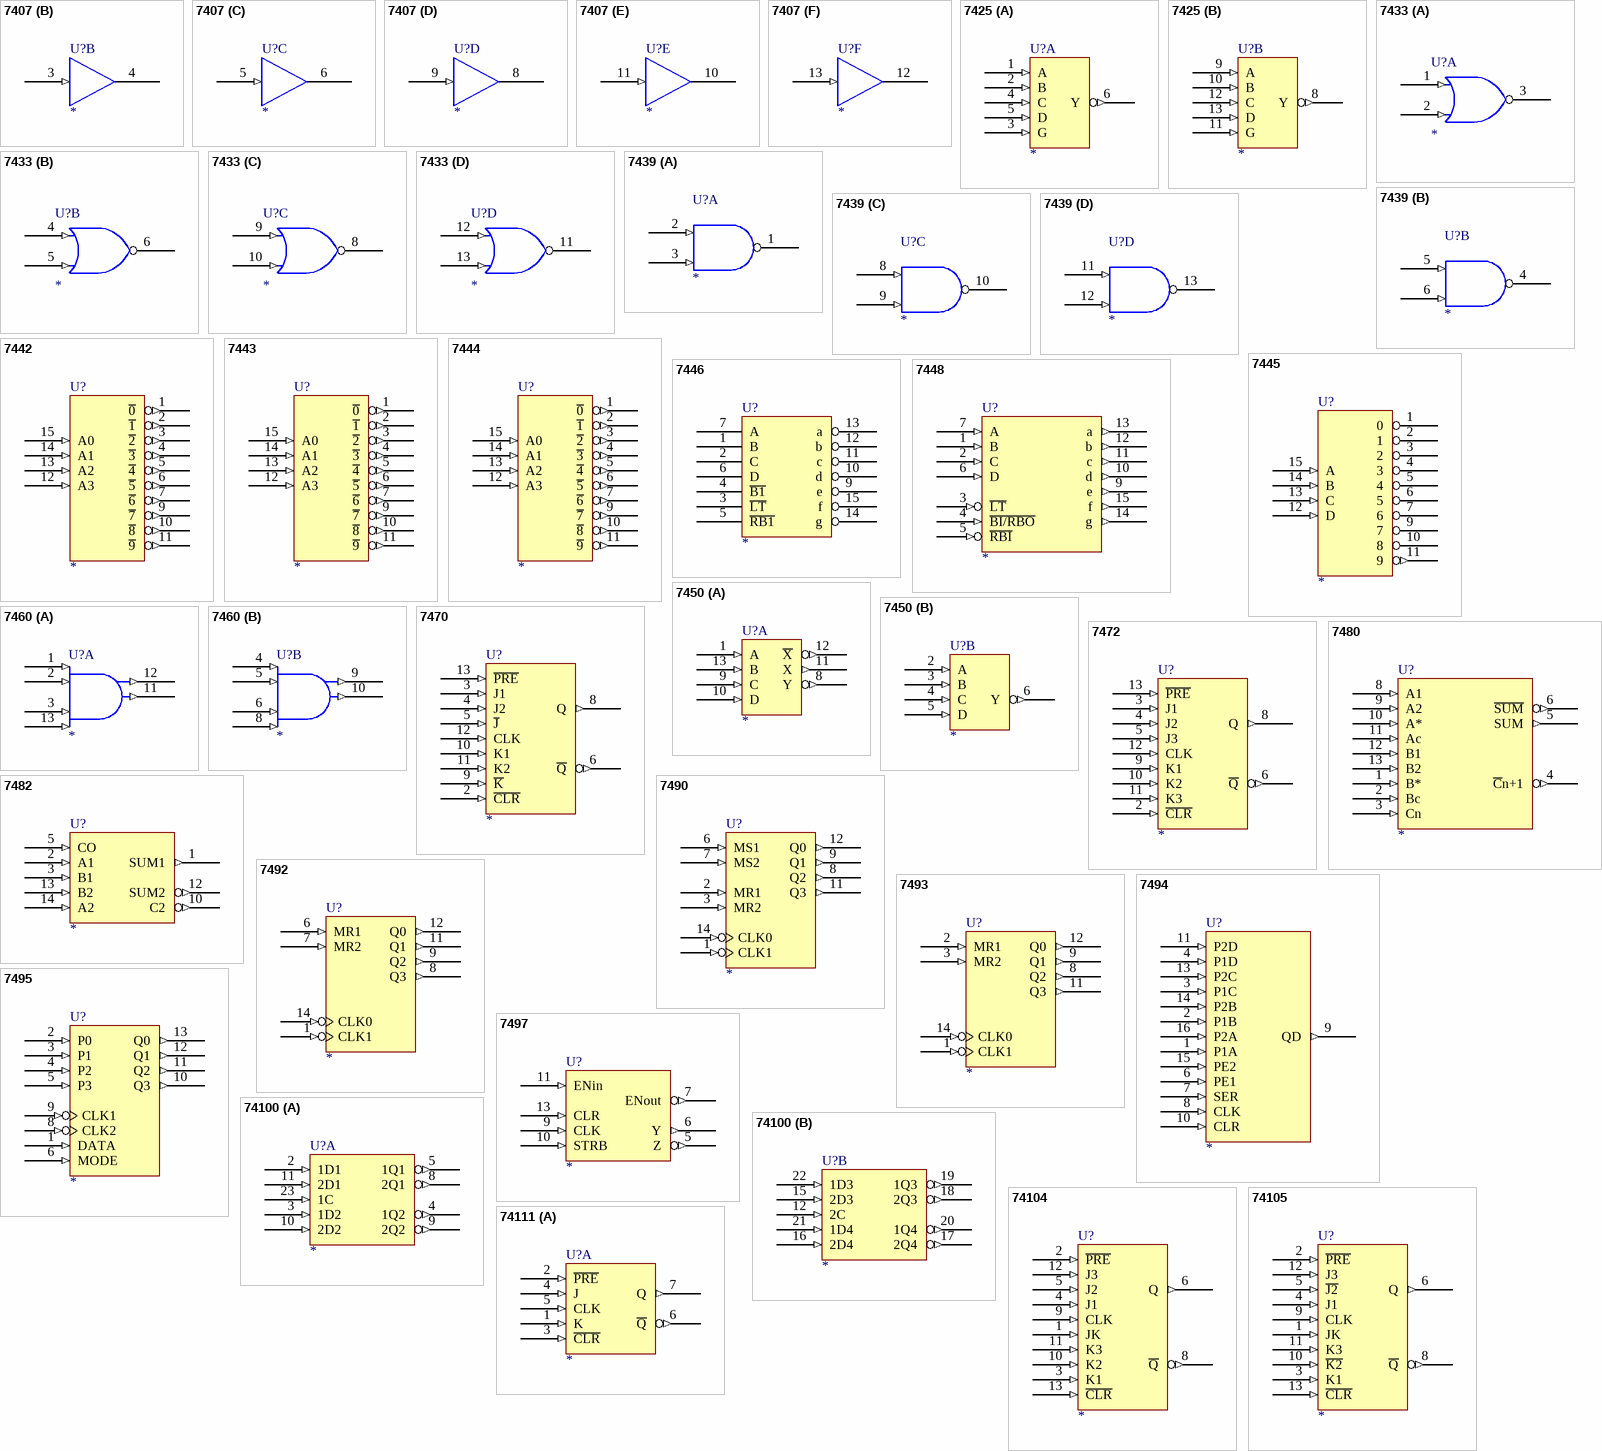
[diagram p35: symbols 7407 to 74111]

## 7407
designator U?
footprint DIP-14
part A pins: 1 (in), 2 (oc), 7 GND (power) hidden to GND, 14 VCC (power) hidden to VCC
part B pins: 3 (in), 4 (oc), 7 GND (power) hidden to GND, 14 VCC (power) hidden to VCC
part C pins: 5 (in), 6 (oc), 7 GND (power) hidden to GND, 14 VCC (power) hidden to VCC
part D pins: 7 GND (power) hidden to GND, 8 (oc), 9 (in), 14 VCC (power) hidden to VCC
part E pins: 7 GND (power) hidden to GND, 10 (oc), 11 (in), 14 VCC (power) hidden to VCC
part F pins: 7 GND (power) hidden to GND, 12 (oc), 13 (in), 14 VCC (power) hidden to VCC

## 7425
designator U?
footprint DIP-14
part A pins: 1 A (in), 2 B (in), 3 G (in), 4 C (in), 5 D (in), 6 Y (out), 7 GND (power) hidden to GND, 14 VCC (power) hidden to VCC
part B pins: 7 GND (power) hidden to GND, 8 Y (out), 9 A (in), 10 B (in), 11 G (in), 12 C (in), 13 D (in), 14 VCC (power) hidden to VCC

## 7433
designator U?
footprint DIP-14
part A pins: 1 (in), 2 (in), 3 (oc), 7 GND (power) hidden to GND, 14 VCC (power) hidden to VCC
part B pins: 4 (in), 5 (in), 6 (oc), 7 GND (power) hidden to GND, 14 VCC (power) hidden to VCC
part C pins: 7 GND (power) hidden to GND, 8 (oc), 9 (in), 10 (in), 14 VCC (power) hidden to VCC
part D pins: 7 GND (power) hidden to GND, 11 (oc), 12 (in), 13 (in), 14 VCC (power) hidden to VCC

## 7439
designator U?
footprint DIP-14
part A pins: 1 (oc), 2 (in), 3 (in), 7 GND (power) hidden to GND, 14 VCC (power) hidden to VCC
part B pins: 4 (oc), 5 (in), 6 (in), 7 GND (power) hidden to GND, 14 VCC (power) hidden to VCC
part C pins: 7 GND (power) hidden to GND, 8 (in), 9 (in), 10 (oc), 14 VCC (power) hidden to VCC
part D pins: 7 GND (power) hidden to GND, 11 (in), 12 (in), 13 (oc), 14 VCC (power) hidden to VCC

## 7442
designator U?
footprint DIP-16
pins: 1 ~{0} (out), 2 ~{1} (out), 3 ~{2} (out), 4 ~{3} (out), 5 ~{4} (out), 6 ~{5} (out), 7 ~{6} (out), 8 GND (power) hidden to GND, 9 ~{7} (out), 10 ~{8} (out), 11 ~{9} (out), 12 A3 (in), 13 A2 (in), 14 A1 (in), 15 A0 (in), 16 VCC (power) hidden to VCC

## 7443
designator U?
footprint DIP-16
pins: 1 ~{0} (out), 2 ~{1} (out), 3 ~{2} (out), 4 ~{3} (out), 5 ~{4} (out), 6 ~{5} (out), 7 ~{6} (out), 8 GND (power) hidden to GND, 9 ~{7} (out), 10 ~{8} (out), 11 ~{9} (out), 12 A3 (in), 13 A2 (in), 14 A1 (in), 15 A0 (in), 16 VCC (power) hidden to VCC

## 7444
designator U?
footprint DIP-16
pins: 1 ~{0} (out), 2 ~{1} (out), 3 ~{2} (out), 4 ~{3} (out), 5 ~{4} (out), 6 ~{5} (out), 7 ~{6} (out), 8 GND (power) hidden to GND, 9 ~{7} (out), 10 ~{8} (out), 11 ~{9} (out), 12 A3 (in), 13 A2 (in), 14 A1 (in), 15 A0 (in), 16 VCC (power) hidden to VCC

## 7445
designator U?
footprint DIP-16
pins: 1 0 (oc), 2 1 (oc), 3 2 (oc), 4 3 (oc), 5 4 (oc), 6 5 (oc), 7 6 (oc), 8 GND (power) hidden to GND, 9 7 (oc), 10 8 (oc), 11 9 (out), 12 D (in), 13 C (in), 14 B (in), 15 A (in), 16 VCC (power) hidden to VCC

## 7446
designator U?
footprint DIP-16
pins: 1 B, 2 C, 3 ~{LT}, 4 ~{B1}, 5 ~{RB1}, 6 D, 7 A, 8 GND (power) hidden to GND, 9 e (oc), 10 d (oc), 11 c (oc), 12 b (oc), 13 a (oc), 14 g (oc), 15 f (oc), 16 VCC (power) hidden to VCC

## 7448
designator U?
footprint DIP-16
pins: 1 B (in), 2 C (in), 3 ~{LT} (in), 4 ~{BI/RBO} (in), 5 ~{RBI} (in), 6 D (in), 7 A (in), 8 GND (power) hidden to GND, 9 e (out), 10 d (out), 11 c (out), 12 b (out), 13 a (out), 14 g (out), 15 f (out), 16 VCC (power) hidden to VCC

## 7450
designator U?
footprint DIP-14
part A pins: 1 A (in), 7 GND (power) hidden to GND, 8 Y (out), 9 C (in), 10 D (in), 11 X (out), 12 ~{X} (out), 13 B (in)
part B pins: 2 A (in), 3 B (in), 4 C (in), 5 D (in), 6 Y (out), 7 GND (power) hidden to GND

## 7460
designator U?
footprint DIP-14
part A pins: 1 (in), 2 (in), 3 (in), 7 GND (power) hidden to GND, 11 (out), 12 (out), 13 (in), 14 VCC (power) hidden to VCC
part B pins: 4 (in), 5 (in), 6 (in), 7 GND (power) hidden to GND, 8 (in), 9 (out), 10 (out), 14 VCC (power) hidden to VCC

## 7470
designator U?
footprint DIP-14
pins: 2 ~{CLR} (in), 3 J1 (in), 4 J2 (in), 5 ~{J} (in), 6 ~{Q} (out), 7 GND (power) hidden to GND, 8 Q (out), 9 ~{K} (in), 10 K1 (in), 11 K2 (in), 12 CLK (in), 13 ~{PRE} (in), 14 VCC (power) hidden to VCC

## 7472
designator U?
footprint DIP-14
pins: 2 ~{CLR} (in), 3 J1 (in), 4 J2 (in), 5 J3 (in), 6 ~{Q} (out), 7 GND (power) hidden to GND, 8 Q (out), 9 K1 (in), 10 K2 (in), 11 K3 (in), 12 CLK (in), 13 ~{PRE} (in), 14 VCC (power) hidden to VCC

## 7480
designator U?
footprint DIP-14
pins: 1 B* (in), 2 Bc (in), 3 Cn (in), 4 ~{C}n+1 (out), 5 SUM (out), 6 ~{SUM} (out), 7 GND (power) hidden to GND, 8 A1 (in), 9 A2 (in), 10 A* (in), 11 Ac (in), 12 B1 (in), 13 B2 (in), 14 VCC (power) hidden to VCC

## 7482
designator U?
footprint DIP-14
pins: 1 SUM1 (out), 2 A1 (in), 3 B1 (in), 4 VCC (power) hidden to VCC, 5 CO (in), 10 C2 (out), 11 GND (power) hidden to GND, 12 SUM2 (out), 13 B2 (in), 14 A2 (in)

## 7490
designator U?
footprint DIP-14
pins: 1 CLK1 (in), 2 MR1 (in), 3 MR2 (in), 5 VCC (power) hidden to VCC, 6 MS1 (in), 7 MS2 (in), 8 Q2 (out), 9 Q1 (out), 10 GND (power) hidden to GND, 11 Q3 (out), 12 Q0 (out), 14 CLK0 (in)

## 7492
designator U?
footprint DIP-14
pins: 1 CLK1 (in), 5 VCC (power) hidden to VCC, 6 MR1 (in), 7 MR2 (in), 8 Q3 (out), 9 Q2 (out), 10 GND (power) hidden to GND, 11 Q1 (out), 12 Q0 (out), 14 CLK0 (in)

## 7493
designator U?
footprint DIP-14
pins: 1 CLK1 (in), 2 MR1 (in), 3 MR2 (in), 5 VCC (power) hidden to VCC, 8 Q2 (out), 9 Q1 (out), 10 GND (power) hidden to GND, 11 Q3 (out), 12 Q0 (out), 14 CLK0 (in)

## 7494
designator U?
footprint DIP-16
pins: 1 P1A (in), 2 P1B (in), 3 P1C (in), 4 P1D (in), 5 VCC (power) hidden to VCC, 6 PE1 (in), 7 SER (in), 8 CLK (in), 9 QD (out), 10 CLR (in), 11 P2D (in), 12 GND (power) hidden to GND, 13 P2C (in), 14 P2B (in), 15 PE2 (in), 16 P2A (in)

## 7495
designator U?
footprint DIP-16
pins: 1 DATA (in), 2 P0 (in), 3 P1 (in), 4 P2 (in), 5 P3 (in), 6 MODE (in), 7 GND (power) hidden to GND, 8 CLK2 (in), 9 CLK1 (in), 10 Q3 (out), 11 Q2 (out), 12 Q1 (out), 13 Q0 (out), 16 VCC (power) hidden to VCC

## 7497
designator U?
footprint DIP-16
pins: 5 Z (out), 6 Y (out), 7 ENout (out), 8 GND (power) hidden to GND, 9 CLK (in), 10 STRB (in), 11 ENin (in), 13 CLR (in), 16 VCC (power) hidden to VCC

## 74100
designator U?
footprint DIP-24
part A pins: 2 1D1 (in), 3 1D2 (in), 4 1Q2 (out), 5 1Q1 (out), 7 GND (power) hidden to GND, 8 2Q1 (out), 9 2Q2 (out), 10 2D2 (in), 11 2D1 (in), 23 1C (in)
part B pins: 7 GND (power) hidden to GND, 12 2C (in), 15 2D3 (in), 16 2D4 (in), 17 2Q4 (out), 18 2Q3 (out), 19 1Q3 (out), 20 1Q4 (out), 21 1D4 (in), 22 1D3 (in)

## 74104
designator U?
footprint DIP-14
pins: 1 JK (in), 2 ~{PRE} (in), 3 K1 (in), 4 J1 (in), 5 J2 (in), 6 Q (out), 7 GND (power) hidden to GND, 8 ~{Q} (out), 9 CLK (in), 10 K2 (in), 11 K3 (in), 12 J3 (in), 13 ~{CLR} (in), 14 VCC (power) hidden to VCC

## 74105
designator U?
footprint DIP-14
pins: 1 JK (in), 2 ~{PRE} (in), 3 K1 (in), 4 J1 (in), 5 ~{J2} (in), 6 Q (out), 7 GND (power) hidden to GND, 8 ~{Q} (out), 9 CLK (in), 10 ~{K2} (in), 11 K3 (in), 12 J3 (in), 13 ~{CLR} (in), 14 VCC (power) hidden to VCC

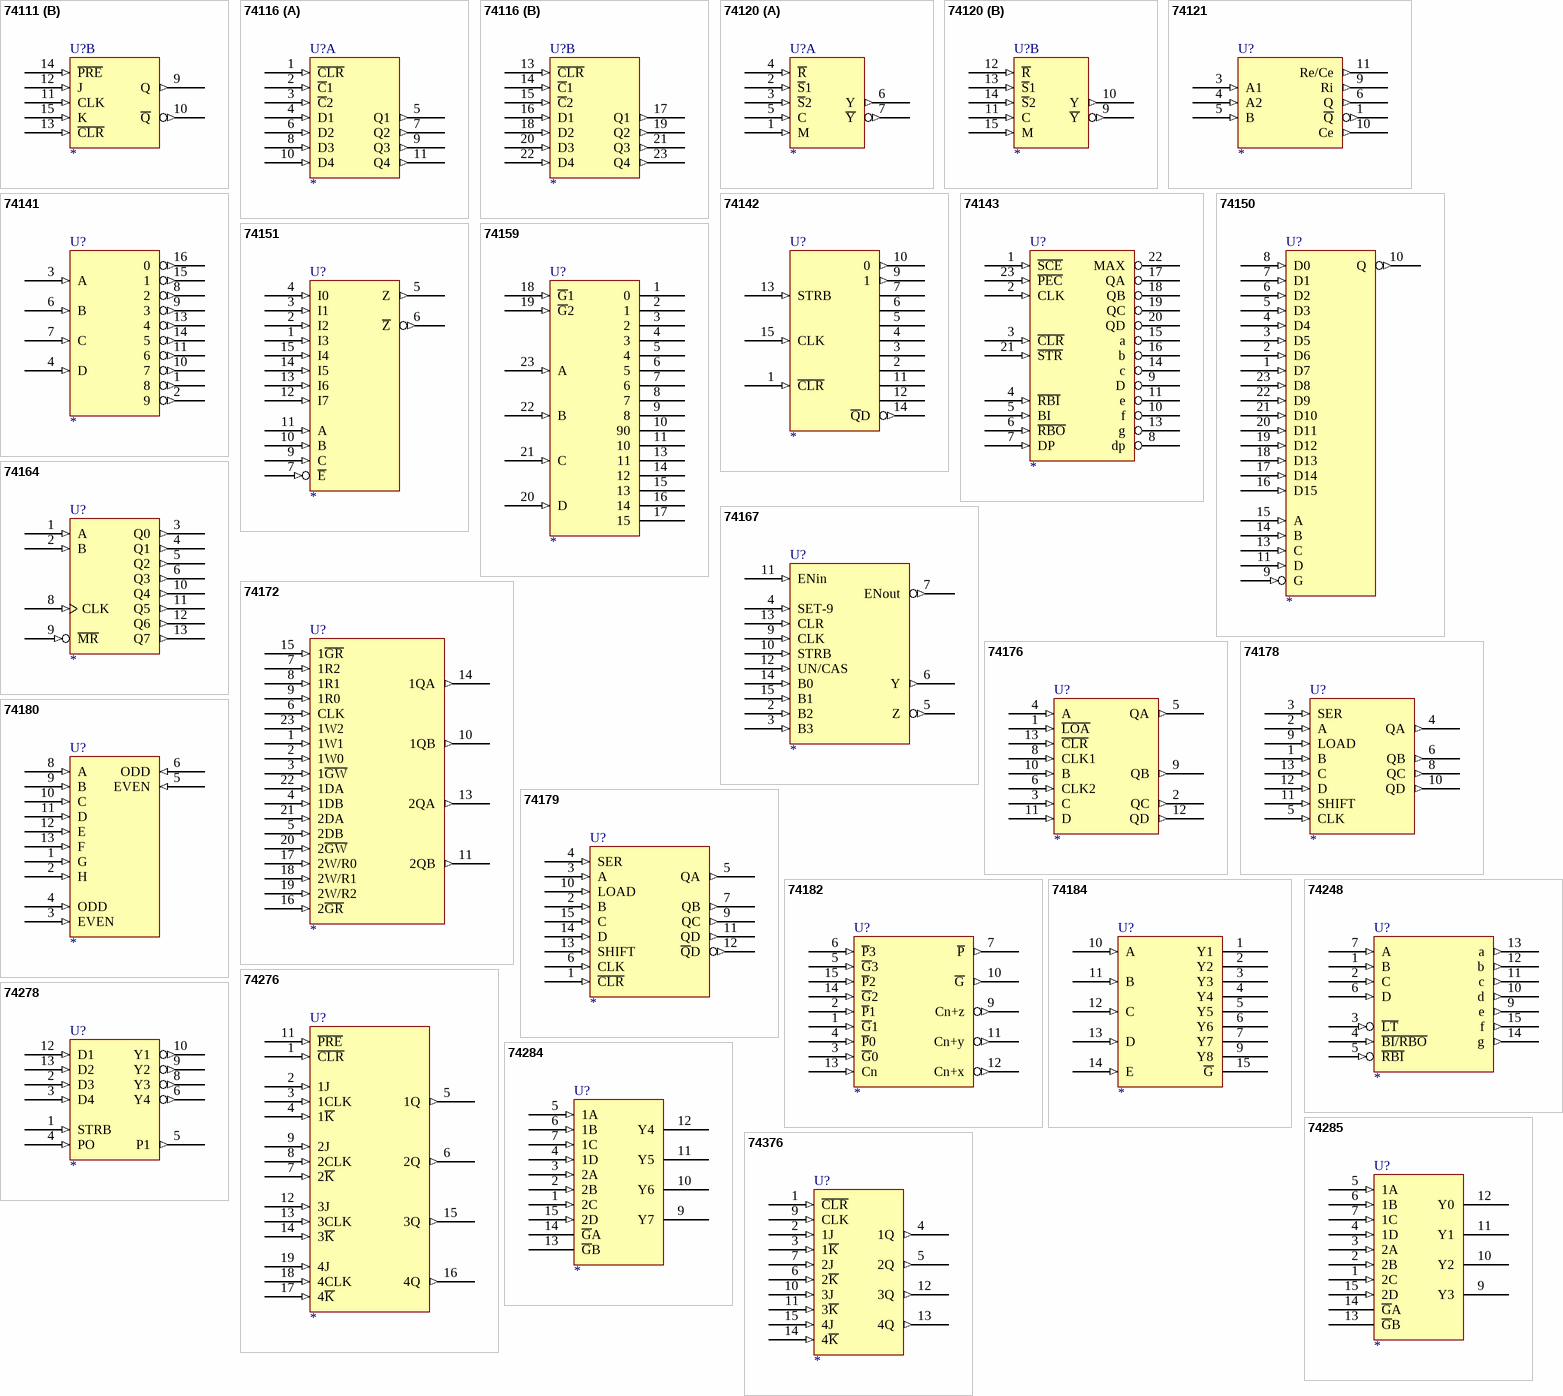
[diagram p36: symbols 74111 to 74376]

## 74111
designator U?
footprint DIP-16
part A pins: 1 K (in), 2 ~{PRE} (in), 3 ~{CLR} (in), 4 J (in), 5 CLK (in), 6 ~{Q} (out), 7 Q (out), 8 GND (power) hidden to GND, 16 VCC (power) hidden to VCC
part B pins: 8 GND (power) hidden to GND, 9 Q (out), 10 ~{Q} (out), 11 CLK (in), 12 J (in), 13 ~{CLR} (in), 14 ~{PRE} (in), 15 K (in), 16 VCC (power) hidden to VCC

## 74116
designator U?
footprint DIP-24
part A pins: 1 ~{CLR} (in), 2 ~{C}1 (in), 3 ~{C}2 (in), 4 D1 (in), 5 Q1 (out), 6 D2 (in), 7 Q2 (out), 8 D3 (in), 9 Q3 (out), 10 D4 (in), 11 Q4 (out), 12 GND (power) hidden to GND, 24 VCC (power) hidden to VCC
part B pins: 12 GND (power) hidden to GND, 13 ~{CLR} (in), 14 ~{C}1 (in), 15 ~{C}2 (in), 16 D1 (in), 17 Q1 (out), 18 D2 (in), 19 Q2 (out), 20 D3 (in), 21 Q3 (out), 22 D4 (in), 23 Q4 (out), 24 VCC (power) hidden to VCC

## 74120
designator U?
footprint DIP-16
part A pins: 1 M (in), 2 ~{S}1 (in), 3 ~{S}2 (in), 4 ~{R} (in), 5 C (in), 6 Y (out), 7 ~{Y} (out), 8 GND (power) hidden to GND, 16 VCC (power) hidden to VCC
part B pins: 8 GND (power) hidden to GND, 9 ~{Y} (out), 10 Y (out), 11 C (in), 12 ~{R} (in), 13 ~{S}1 (in), 14 ~{S}2 (in), 15 M (in), 16 VCC (power) hidden to VCC

## 74121
designator U?
footprint DIP-14
pins: 1 ~{Q} (out), 3 A1 (in), 4 A2 (in), 5 B (in), 6 Q (out), 7 GND (power) hidden to GND, 9 Ri (out), 10 Ce (out), 11 Re/Ce (out), 14 VCC (power) hidden to VCC

## 74141
designator U?
footprint DIP-16
pins: 1 8 (out), 2 9 (out), 3 A (in), 4 D (in), 5 VCC (power) hidden to VCC, 6 B (in), 7 C (in), 8 2 (out), 9 3 (out), 10 7 (out), 11 6 (out), 12 GND (power) hidden to GND, 13 4 (out), 14 5 (out), 15 1 (out), 16 0 (out)

## 74142
designator U?
footprint DIP-16
pins: 1 ~{CLR} (in), 2, 3, 4, 5, 6, 7, 8 GND (power) hidden to GND, 9 1 (out), 10 0 (out), 11, 12, 13 STRB (in), 14 ~{Q}D (out), 15 CLK (in), 16 VCC (power) hidden to VCC

## 74143
designator U?
footprint DIP-24
pins: 1 ~{SCE} (in), 2 CLK (in), 3 ~{CLR} (in), 4 ~{RBI} (in), 5 BI (in), 6 ~{RBO} (in), 7 DP (in), 8 dp (oc), 9 D (oc), 10 f (oc), 11 e (oc), 12 GND (power) hidden to GND, 13 g (oc), 14 c (oc), 15 a (oc), 16 b (oc), 17 QA (oc), 18 QB (oc), 19 QC (oc), 20 QD (oc), 21 ~{STR} (in), 22 MAX (oc), 23 ~{PEC} (in), 24 VCC (power) hidden to VCC

## 74150
designator U?
footprint DIP-24
pins: 1 D7 (in), 2 D6 (in), 3 D5 (in), 4 D4 (in), 5 D3 (in), 6 D2 (in), 7 D1 (in), 8 D0 (in), 9 G (in), 10 Q (out), 11 D (in), 12 GND (power) hidden to GND, 13 C (in), 14 B (in), 15 A (in), 16 D15 (in), 17 D14 (in), 18 D13 (in), 19 D12 (in), 20 D11 (in), 21 D10 (in), 22 D9 (in), 23 D8 (in), 24 VCC (power) hidden to VCC

## 74151
designator U?
footprint DIP-16
pins: 1 I3 (in), 2 I2 (in), 3 I1 (in), 4 I0 (in), 5 Z (out), 6 ~{Z} (out), 7 ~{E} (in), 8 GND (power) hidden to GND, 9 C (in), 10 B (in), 11 A (in), 12 I7 (in), 13 I6 (in), 14 I5 (in), 15 I4 (in), 16 VCC (power) hidden to VCC

## 74159
designator U?
footprint DIP-24
pins: 1 0 (oc), 2 1 (oc), 3 2 (oc), 4 3 (oc), 5 4 (oc), 6 5 (oc), 7 6 (oc), 8 7 (oc), 9 8 (oc), 10 90 (oc), 11 10 (oc), 12 GND (power) hidden to GND, 13 11 (oc), 14 12 (oc), 15 13 (oc), 16 14 (oc), 17 15 (oc), 18 ~{G}1 (in), 19 ~{G}2 (in), 20 D (in), 21 C (in), 22 B (in), 23 A (in), 24 VCC (power) hidden to VCC

## 74164
designator U?
footprint DIP-14
pins: 1 A (in), 2 B (in), 3 Q0 (out), 4 Q1 (out), 5 Q2 (out), 6 Q3 (out), 7 GND (power) hidden to GND, 8 CLK (in), 9 ~{MR} (in), 10 Q4 (out), 11 Q5 (out), 12 Q6 (out), 13 Q7 (out), 14 VCC (power) hidden to VCC

## 74167
designator U?
footprint DIP-16
pins: 1 VCC (power) hidden to VCC, 2 B2 (in), 3 B3 (in), 4 SET-9 (in), 5 Z (out), 6 Y (out), 7 ENout (out), 8 GND (power) hidden to GND, 9 CLK (in), 10 STRB (in), 11 ENin (in), 12 UN/CAS (in), 13 CLR (in), 14 B0 (in), 15 B1 (in)

## 74172
designator U?
footprint DIP-24
pins: 1 1W1 (in), 2 1W0 (in), 3 1~{GW} (in), 4 1DB (in), 5 2DB (in), 6 CLK (in), 7 1R2 (in), 8 1R1 (in), 9 1R0 (in), 10 1QB (out), 11 2QB (out), 12 GND (power) hidden to GND, 13 2QA (out), 14 1QA (out), 15 1~{GR} (in), 16 2~{GR} (in), 17 2W/R0 (in), 18 2W/R1 (in), 19 2W/R2 (in), 20 2~{GW} (in), 21 2DA (in), 22 1DA (in), 23 1W2 (in), 24 VCC (power) hidden to VCC

## 74176
designator U?
footprint DIP-14
pins: 1 ~{LOA} (in), 2 QC (out), 3 C (in), 4 A (in), 5 QA (out), 6 CLK2 (in), 7 GND (power) hidden to GND, 8 CLK1 (in), 9 QB (out), 10 B (in), 11 D (in), 12 QD (out), 13 ~{CLR} (in), 14 VCC (power) hidden to VCC

## 74178
designator U?
footprint DIP-14
pins: 1 B (in), 2 A (in), 3 SER (in), 4 QA (out), 5 CLK (in), 6 QB (out), 7 GND (power) hidden to GND, 8 QC (out), 9 LOAD (in), 10 QD (out), 11 SHIFT (in), 12 D (in), 13 C (in), 14 VCC (power) hidden to VCC

## 74179
designator U?
footprint DIP-16
pins: 1 ~{CLR} (in), 2 B (in), 3 A (in), 4 SER (in), 5 QA (out), 6 CLK (in), 7 QB (out), 8 GND (power) hidden to GND, 9 QC (out), 10 LOAD (in), 11 QD (out), 12 ~{Q}D (out), 13 SHIFT (in), 14 D (in), 15 C (in), 16 VCC (power) hidden to VCC

## 74180
designator U?
footprint DIP-14
pins: 1 G (in), 2 H (in), 3 EVEN (in), 4 ODD (in), 5 EVEN (in), 6 ODD (in), 7 GND (power) hidden to GND, 8 A (in), 9 B (in), 10 C (in), 11 D (in), 12 E (in), 13 F (in), 14 VCC (power) hidden to VCC

## 74182
designator U?
footprint DIP-16
pins: 1 ~{G}1 (in), 2 ~{P}1 (in), 3 ~{G}0 (in), 4 ~{P}0 (in), 5 ~{G}3 (in), 6 ~{P}3 (in), 7 ~{P} (out), 8 GND (power) hidden to GND, 9 Cn+z (out), 10 ~{G} (out), 11 Cn+y (out), 12 Cn+x (out), 13 Cn (in), 14 ~{G}2 (in), 15 ~{P}2 (in), 16 VCC (power) hidden to VCC

## 74184
designator U?
footprint DIP-16
pins: 1 Y1 (oc), 2 Y2 (oc), 3 Y3 (oc), 4 Y4 (oc), 5 Y5 (oc), 6 Y6 (oc), 7 Y7 (oc), 8 GND (power) hidden to GND, 9 Y8 (oc), 10 A (in), 11 B (in), 12 C (in), 13 D (in), 14 E (in), 15 ~{G} (oc), 16 VCC (power) hidden to VCC

## 74248
designator U?
footprint DIP-16
pins: 1 B (in), 2 C (in), 3 ~{LT} (in), 4 ~{BI/RBO} (in), 5 ~{RBI} (in), 6 D (in), 7 A (in), 8 GND (power) hidden to GND, 9 e (out), 10 d (out), 11 c (out), 12 b (out), 13 a (out), 14 g (out), 15 f (out), 16 VCC (power) hidden to VCC

## 74276
designator U?
footprint DIP-20
pins: 1 ~{CLR} (in), 2 1J (in), 3 1CLK (in), 4 1~{K} (in), 5 1Q (out), 6 2Q (out), 7 2~{K} (in), 8 2CLK (in), 9 2J (in), 10 GND (power) hidden to GND, 11 ~{PRE} (in), 12 3J (in), 13 3CLK (in), 14 3~{K} (in), 15 3Q (out), 16 4Q (out), 17 4~{K} (in), 18 4CLK (in), 19 4J (in), 20 VCC (power) hidden to VCC

## 74278
designator U?
footprint DIP-14
pins: 1 STRB (in), 2 D3 (in), 3 D4 (in), 4 PO (in), 5 P1 (out), 6 Y4 (out), 7 GND (power) hidden to GND, 8 Y3 (out), 9 Y2 (out), 10 Y1 (out), 12 D1 (in), 13 D2 (in), 14 VCC (power) hidden to VCC

## 74284
designator U?
footprint DIP-16
pins: 1 2C (in), 2 2B (in), 3 2A (in), 4 1D (in), 5 1A (in), 6 1B (in), 7 1C (in), 8 GND (power) hidden to GND, 9 Y7 (oc), 10 Y6 (oc), 11 Y5 (oc), 12 Y4 (oc), 13 ~{G}B, 14 ~{G}A, 15 2D (in), 16 VCC (power) hidden to VCC

## 74285
designator U?
footprint DIP-16
pins: 1 2C (in), 2 2B (in), 3 2A (in), 4 1D (in), 5 1A (in), 6 1B (in), 7 1C (in), 8 GND (power) hidden to GND, 9 Y3 (oc), 10 Y2 (oc), 11 Y1 (oc), 12 Y0 (oc), 13 ~{G}B, 14 ~{G}A, 15 2D (in), 16 VCC (power) hidden to VCC

## 74376
designator U?
footprint DIP-16
pins: 1 ~{CLR} (in), 2 1J (in), 3 1~{K} (in), 4 1Q (out), 5 2Q (out), 6 2~{K} (in), 7 2J (in), 8 GND (power) hidden to GND, 9 CLK (in), 10 3J (in), 11 3~{K} (in), 12 3Q (out), 13 4Q (out), 14 4~{K} (in), 15 4J (in), 16 VCC (power) hidden to VCC


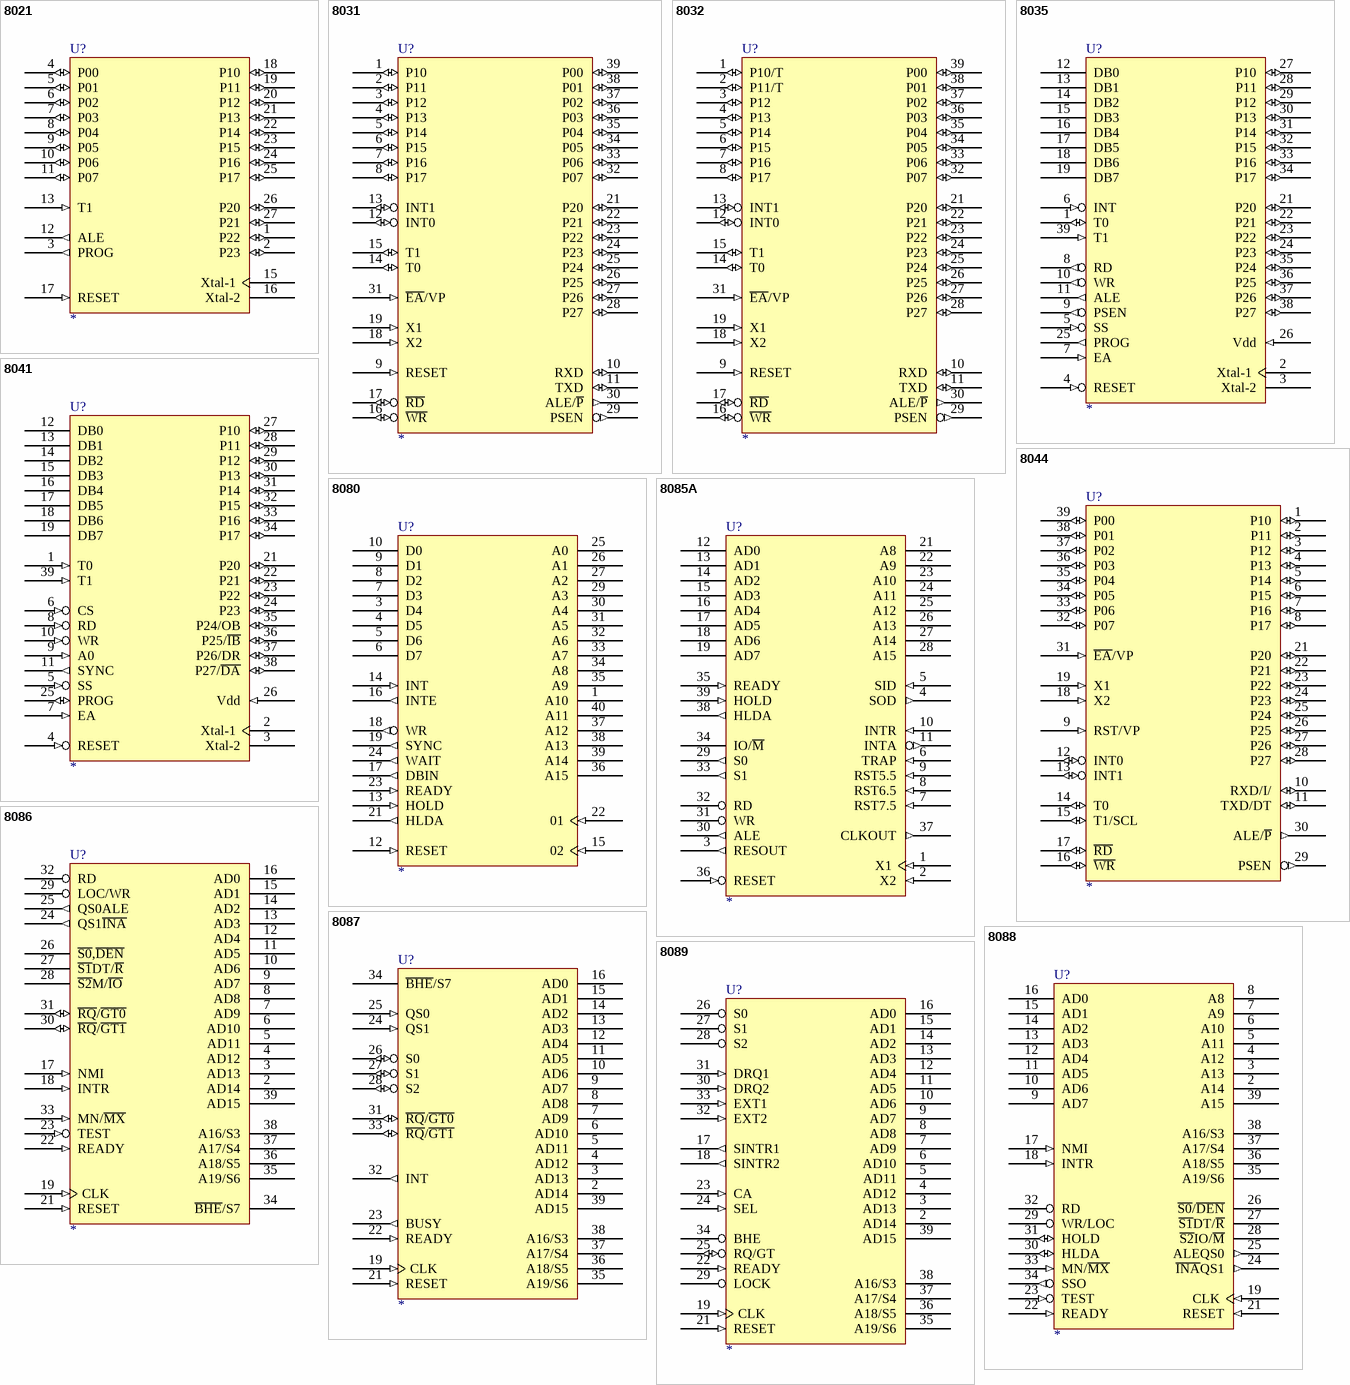
[diagram p37: symbols 8021 to 8089]

## 8021
designator U?
footprint DIP-28
pins: 1 P22 (io), 2 P23 (io), 3 PROG (out), 4 P00 (io), 5 P01 (io), 6 P02 (io), 7 P03 (io), 8 P04 (io), 9 P05 (io), 10 P06 (io), 11 P07 (io), 12 ALE (out), 13 T1 (in), 14 GND (power) hidden to GND, 15 Xtal-1, 16 Xtal-2, 17 RESET (in), 18 P10 (io), 19 P11 (io), 20 P12 (io), 21 P13 (io), 22 P14 (io), 23 P15 (io), 24 P16 (io), 25 P17 (io), 26 P20 (io), 27 P21 (io), 28 VCC (power) hidden to VCC

## 8031
designator U?
footprint DIP-40
pins: 1 P10 (io), 2 P11 (io), 3 P12 (io), 4 P13 (io), 5 P14 (io), 6 P15 (io), 7 P16 (io), 8 P17 (io), 9 RESET (in), 10 RXD (io), 11 TXD (io), 12 INT0 (io), 13 INT1 (io), 14 T0 (io), 15 T1 (io), 16 ~{WR} (io), 17 ~{RD} (io), 18 X2 (in), 19 X1 (in), 20 GND (power) hidden to GND, 21 P20 (io), 22 P21 (io), 23 P22 (io), 24 P23 (io), 25 P24 (io), 26 P25 (io), 27 P26 (io), 28 P27 (io), 29 PSEN (out), 30 ALE/~{P} (out), 31 ~{EA}/VP (in), 32 P07 (io), 33 P06 (io), 34 P05 (io), 35 P04 (io), 36 P03 (io), 37 P02 (io), 38 P01 (io), 39 P00 (io), 40 VCC (power) hidden to VCC

## 8032
designator U?
footprint DIP-40
pins: 1 P10/T (io), 2 P11/T (io), 3 P12 (io), 4 P13 (io), 5 P14 (io), 6 P15 (io), 7 P16 (io), 8 P17 (io), 9 RESET (in), 10 RXD (io), 11 TXD (io), 12 INT0 (io), 13 INT1 (io), 14 T0 (io), 15 T1 (io), 16 ~{WR} (io), 17 ~{RD} (io), 18 X2 (in), 19 X1 (in), 20 GND (power) hidden to GND, 21 P20 (io), 22 P21 (io), 23 P22 (io), 24 P23 (io), 25 P24 (io), 26 P25 (io), 27 P26 (io), 28 P27 (io), 29 PSEN (out), 30 ALE/~{P} (out), 31 ~{EA}/VP (in), 32 P07 (io), 33 P06 (io), 34 P05 (io), 35 P04 (io), 36 P03 (io), 37 P02 (io), 38 P01 (io), 39 P00 (io), 40 VCC (power) hidden to VCC

## 8035
designator U?
footprint DIP-40
pins: 1 T0 (io), 2 Xtal-1, 3 Xtal-2, 4 RESET (in), 5 SS (in), 6 INT (in), 7 EA (in), 8 RD (out), 9 PSEN (out), 10 WR (out), 11 ALE (out), 12 DB0 (hiz), 13 DB1 (hiz), 14 DB2 (hiz), 15 DB3 (hiz), 16 DB4 (hiz), 17 DB5 (hiz), 18 DB6 (hiz), 19 DB7 (hiz), 20 GND (power) hidden to GND, 21 P20 (io), 22 P21 (io), 23 P22 (io), 24 P23 (io), 25 PROG (out), 26 Vdd (in), 27 P10 (io), 28 P11 (io), 29 P12 (io), 30 P13 (io), 31 P14 (io), 32 P15 (io), 33 P16 (io), 34 P17 (io), 35 P24 (io), 36 P25 (io), 37 P26 (io), 38 P27 (io), 39 T1 (in), 40 VCC (power) hidden to VCC

## 8041
designator U?
footprint DIP-40
pins: 1 T0 (in), 2 Xtal-1, 3 Xtal-2, 4 RESET (in), 5 SS (in), 6 CS (in), 7 EA (in), 8 RD (in), 9 A0 (in), 10 WR (in), 11 SYNC (out), 12 DB0 (hiz), 13 DB1 (hiz), 14 DB2 (hiz), 15 DB3 (hiz), 16 DB4 (hiz), 17 DB5 (hiz), 18 DB6 (hiz), 19 DB7 (hiz), 20 GND (power) hidden to GND, 21 P20 (io), 22 P21 (io), 23 P22 (io), 24 P23 (io), 25 PROG (io), 26 Vdd (in), 27 P10 (io), 28 P11 (io), 29 P12 (io), 30 P13 (io), 31 P14 (io), 32 P15 (io), 33 P16 (io), 34 P17 (io), 35 P24/OB (io), 36 P25/~{IB} (io), 37 P26/DR (io), 38 P27/~{DA} (io), 39 T1 (in), 40 VCC (power) hidden to VCC

## 8044
designator U?
footprint DIP-40
pins: 1 P10 (io), 2 P11 (io), 3 P12 (io), 4 P13 (io), 5 P14 (io), 6 P15 (io), 7 P16 (io), 8 P17 (io), 9 RST/VP (in), 10 RXD/I/ (io), 11 TXD/DT (io), 12 INT0 (io), 13 INT1 (io), 14 T0 (io), 15 T1/SCL (io), 16 ~{WR} (io), 17 ~{RD} (io), 18 X2 (in), 19 X1 (in), 20 GND (power) hidden to GND, 21 P20 (io), 22 P21 (io), 23 P22 (io), 24 P23 (io), 25 P24 (io), 26 P25 (io), 27 P26 (io), 28 P27 (io), 29 PSEN (out), 30 ALE/~{P} (out), 31 ~{EA}/VP (in), 32 P07 (io), 33 P06 (io), 34 P05 (io), 35 P04 (io), 36 P03 (io), 37 P02 (io), 38 P01 (io), 39 P00 (io), 40 VCC (power) hidden to VCC

## 8080
designator U?
footprint DIP-40
pins: 1 A10 (hiz), 2 GND (power) hidden to GND, 3 D4 (hiz), 4 D5 (hiz), 5 D6 (hiz), 6 D7 (hiz), 7 D3 (hiz), 8 D2 (hiz), 9 D1 (hiz), 10 D0 (hiz), 11 -5 (power) hidden to -5, 12 RESET (in), 13 HOLD (in), 14 INT (in), 15 02 (in), 16 INTE (out), 17 DBIN (out), 18 WR (out), 19 SYNC (out), 20 VCC (power) hidden to VCC, 21 HLDA (out), 22 01 (in), 23 READY (in), 24 WAIT (out), 25 A0 (hiz), 26 A1 (hiz), 27 A2 (hiz), 28 +12 (power) hidden to +12, 29 A3 (hiz), 30 A4 (hiz), 31 A5 (hiz), 32 A6 (hiz), 33 A7 (hiz), 34 A8 (hiz), 35 A9 (hiz), 36 A15 (hiz), 37 A12 (hiz), 38 A13 (hiz), 39 A14 (hiz), 40 A11 (hiz)

## 8085A
designator U?
footprint DIP-40
pins: 1 X1 (in), 2 X2 (in), 3 RESOUT (out), 4 SOD (out), 5 SID (in), 6 TRAP (in), 7 RST7.5 (in), 8 RST6.5 (in), 9 RST5.5 (in), 10 INTR (in), 11 INTA (out), 12 AD0 (hiz), 13 AD1 (hiz), 14 AD2 (hiz), 15 AD3 (hiz), 16 AD4 (hiz), 17 AD5 (hiz), 18 AD6 (hiz), 19 AD7 (hiz), 20 GND (power) hidden to GND, 21 A8 (hiz), 22 A9 (hiz), 23 A10 (hiz), 24 A11 (hiz), 25 A12 (hiz), 26 A13 (hiz), 27 A14 (hiz), 28 A15 (hiz), 29 S0 (out), 30 ALE (out), 31 WR (hiz), 32 RD (hiz), 33 S1 (out), 34 IO/~{M} (hiz), 35 READY (in), 36 RESET (in), 37 CLKOUT (out), 38 HLDA (out), 39 HOLD (in), 40 VCC (power) hidden to VCC

## 8086
designator U?
footprint DIP-40
pins: 1 GND (power) hidden to GND, 2 AD14 (hiz), 3 AD13 (hiz), 4 AD12 (hiz), 5 AD11 (hiz), 6 AD10 (hiz), 7 AD9 (hiz), 8 AD8 (hiz), 9 AD7 (hiz), 10 AD6 (hiz), 11 AD5 (hiz), 12 AD4 (hiz), 13 AD3 (hiz), 14 AD2 (hiz), 15 AD1 (hiz), 16 AD0 (hiz), 17 NMI (in), 18 INTR (in), 19 CLK (in), 20 GND (power) hidden to GND, 21 RESET (in), 22 READY (in), 23 TEST (in), 24 QS1~{INA} (out), 25 QS0ALE (out), 26 ~{S0},~{DEN} (hiz), 27 ~{S1}DT/~{R} (hiz), 28 ~{S2}M/~{IO} (hiz), 29 LOC/WR (hiz), 30 ~{RQ}/~{GT1} (io), 31 ~{RQ}/~{GT0} (io), 32 RD (hiz), 33 MN/~{MX} (in), 34 ~{BHE}/S7 (hiz), 35 A19/S6 (hiz), 36 A18/S5 (hiz), 37 A17/S4 (hiz), 38 A16/S3 (hiz), 39 AD15 (hiz), 40 VCC (power) hidden to VCC

## 8087
designator U?
footprint DIP-40
pins: 1 GND (power) hidden to GND, 2 AD14 (hiz), 3 AD13 (hiz), 4 AD12 (hiz), 5 AD11 (hiz), 6 AD10 (hiz), 7 AD9 (hiz), 8 AD8 (hiz), 9 AD7 (hiz), 10 AD6 (hiz), 11 AD5 (hiz), 12 AD4 (hiz), 13 AD3 (hiz), 14 AD2 (hiz), 15 AD1 (hiz), 16 AD0 (hiz), 19 CLK (in), 20 GND (power) hidden to GND, 21 RESET (in), 22 READY (in), 23 BUSY (out), 24 QS1 (in), 25 QS0 (in), 26 S0 (io), 27 S1 (io), 28 S2 (io), 31 ~{RQ}/~{GT0} (io), 32 INT (out), 33 ~{RQ}/~{GT1} (io), 34 ~{BHE}/S7 (hiz), 35 A19/S6 (hiz), 36 A18/S5 (hiz), 37 A17/S4 (hiz), 38 A16/S3 (hiz), 39 AD15 (hiz), 40 VCC (power) hidden to VCC

## 8088
designator U?
footprint DIP-40
pins: 1 GND (power) hidden to GND, 2 A14 (hiz), 3 A13 (hiz), 4 A12 (hiz), 5 A11 (hiz), 6 A10 (hiz), 7 A9 (hiz), 8 A8 (hiz), 9 AD7 (hiz), 10 AD6 (hiz), 11 AD5 (hiz), 12 AD4 (hiz), 13 AD3 (hiz), 14 AD2 (hiz), 15 AD1 (hiz), 16 AD0 (hiz), 17 NMI (in), 18 INTR (in), 19 CLK (in), 20 GND (power) hidden to GND, 21 RESET (in), 22 READY (in), 23 TEST (in), 24 ~{INA}QS1 (out), 25 ALEQS0 (out), 26 ~{S0}/~{DEN} (hiz), 27 ~{S1}DT/~{R} (hiz), 28 ~{S2}IO/~{M} (hiz), 29 WR/LOC (hiz), 30 HLDA (io), 31 HOLD (io), 32 RD (hiz), 33 MN/~{MX} (in), 34 SSO (out), 35 A19/S6 (hiz), 36 A18/S5 (hiz), 37 A17/S4 (hiz), 38 A16/S3 (hiz), 39 A15 (hiz), 40 VCC (power) hidden to VCC

## 8089
designator U?
footprint DIP-40
pins: 1 GND (power) hidden to GND, 2 AD14 (hiz), 3 AD13 (hiz), 4 AD12 (hiz), 5 AD11 (hiz), 6 AD10 (hiz), 7 AD9 (hiz), 8 AD8 (hiz), 9 AD7 (hiz), 10 AD6 (hiz), 11 AD5 (hiz), 12 AD4 (hiz), 13 AD3 (hiz), 14 AD2 (hiz), 15 AD1 (hiz), 16 AD0 (hiz), 17 SINTR1 (out), 18 SINTR2 (out), 19 CLK (in), 20 GND (power) hidden to GND, 21 RESET (in), 22 READY (in), 23 CA (in), 24 SEL (in), 25 RQ/GT (io), 26 S0 (hiz), 27 S1 (hiz), 28 S2 (hiz), 29 LOCK (hiz), 30 DRQ2 (in), 31 DRQ1 (in), 32 EXT2 (in), 33 EXT1 (in), 34 BHE (hiz), 35 A19/S6 (hiz), 36 A18/S5 (hiz), 37 A17/S4 (hiz), 38 A16/S3 (hiz), 39 AD15 (hiz), 40 VCC (power) hidden to VCC

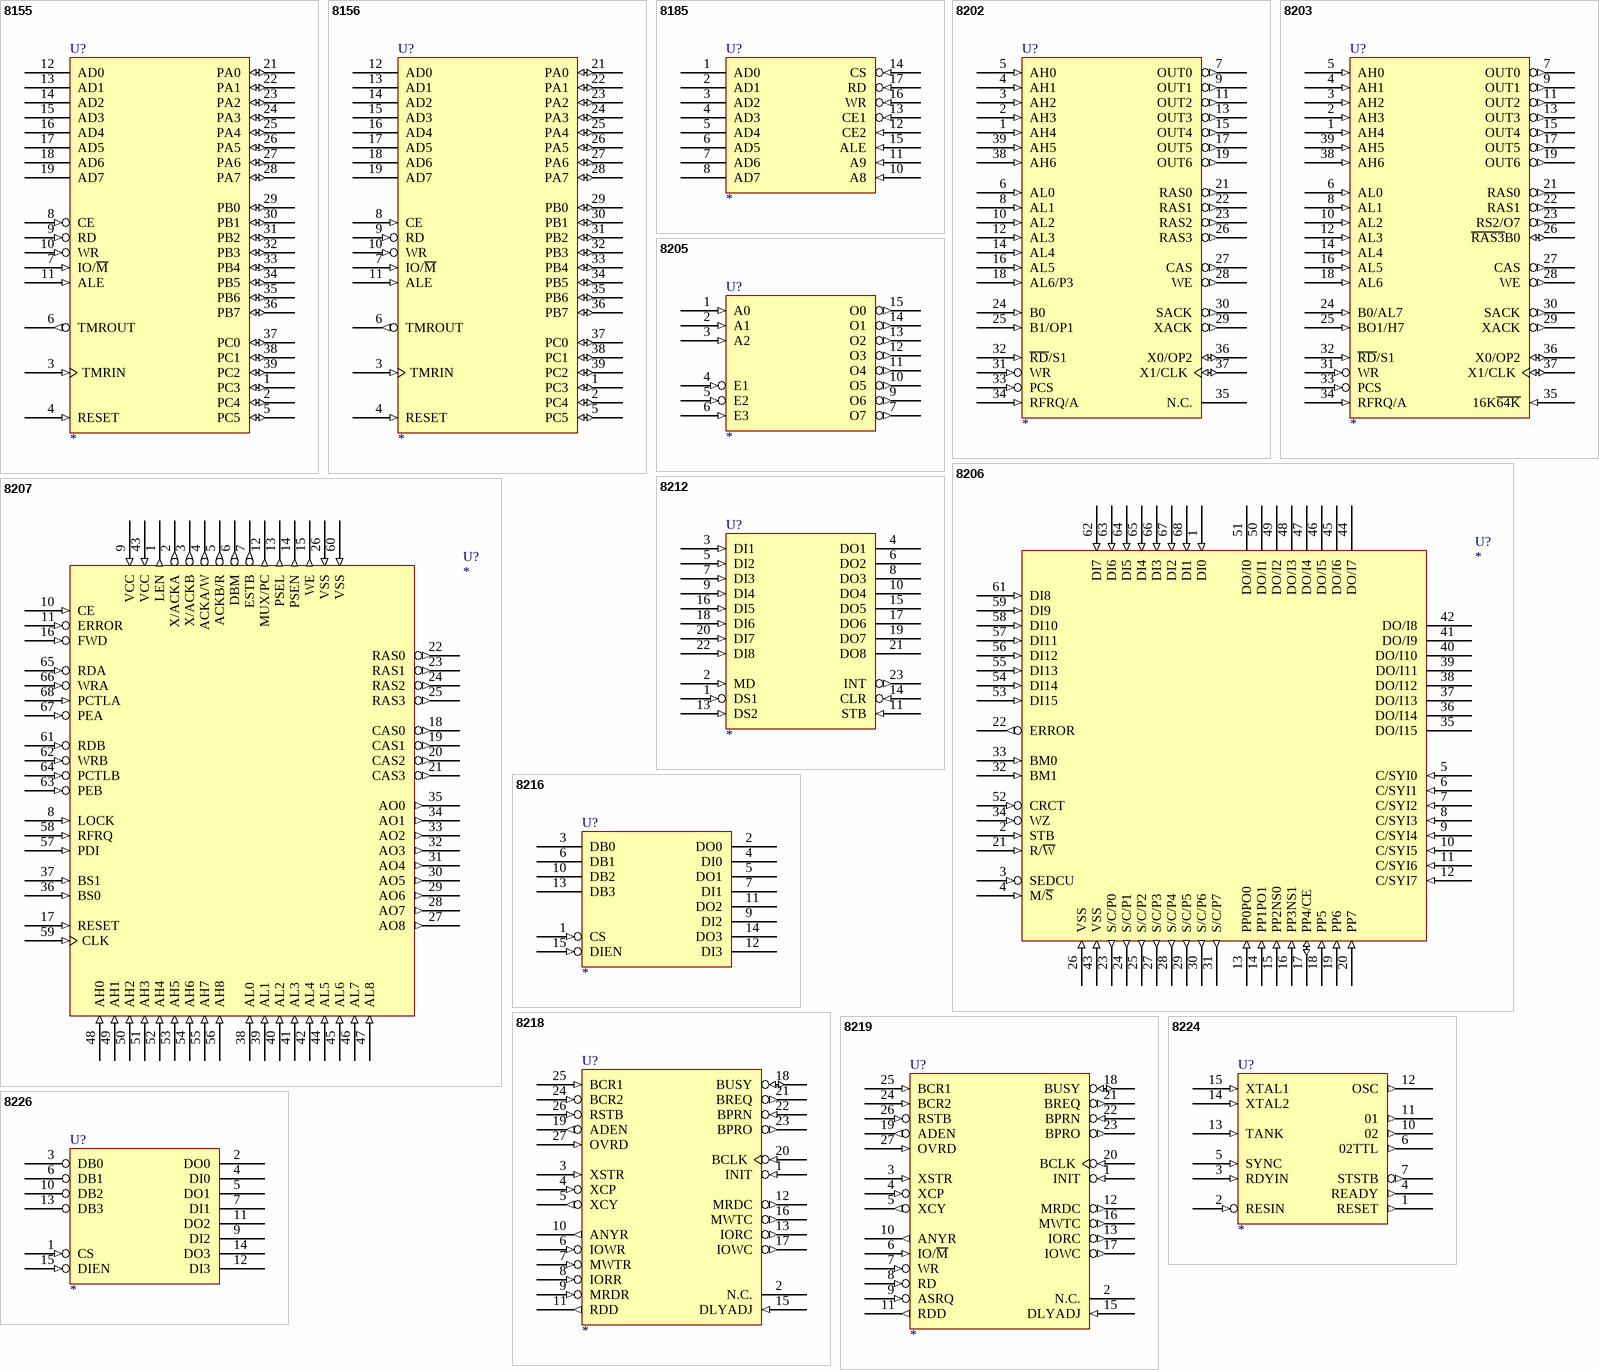
[diagram p38: symbols 8155 to 8226]

## 8155
designator U?
footprint DIP-40
pins: 1 PC3 (io), 2 PC4 (io), 3 TMRIN (in), 4 RESET (in), 5 PC5 (io), 6 TMROUT (out), 7 IO/~{M} (in), 8 CE (in), 9 RD (in), 10 WR (in), 11 ALE (in), 12 AD0 (hiz), 13 AD1 (hiz), 14 AD2 (hiz), 15 AD3 (hiz), 16 AD4 (hiz), 17 AD5 (hiz), 18 AD6 (hiz), 19 AD7 (hiz), 20 GND (power) hidden to GND, 21 PA0 (io), 22 PA1 (io), 23 PA2 (io), 24 PA3 (io), 25 PA4 (io), 26 PA5 (io), 27 PA6 (io), 28 PA7 (io), 29 PB0 (io), 30 PB1 (io), 31 PB2 (io), 32 PB3 (io), 33 PB4 (io), 34 PB5 (io), 35 PB6 (io), 36 PB7 (io), 37 PC0 (io), 38 PC1 (io), 39 PC2 (io), 40 VCC (power) hidden to VCC

## 8156
designator U?
footprint DIP-40
pins: 1 PC3 (io), 2 PC4 (io), 3 TMRIN (in), 4 RESET (in), 5 PC5 (io), 6 TMROUT (out), 7 IO/~{M} (in), 8 CE (in), 9 RD (in), 10 WR (in), 11 ALE (in), 12 AD0 (hiz), 13 AD1 (hiz), 14 AD2 (hiz), 15 AD3 (hiz), 16 AD4 (hiz), 17 AD5 (hiz), 18 AD6 (hiz), 19 AD7 (hiz), 20 GND (power) hidden to GND, 21 PA0 (io), 22 PA1 (io), 23 PA2 (io), 24 PA3 (io), 25 PA4 (io), 26 PA5 (io), 27 PA6 (io), 28 PA7 (io), 29 PB0 (io), 30 PB1 (io), 31 PB2 (io), 32 PB3 (io), 33 PB4 (io), 34 PB5 (io), 35 PB6 (io), 36 PB7 (io), 37 PC0 (io), 38 PC1 (io), 39 PC2 (io), 40 VCC (power) hidden to VCC

## 8185
designator U?
footprint DIP-18
pins: 1 AD0 (hiz), 2 AD1 (hiz), 3 AD2 (hiz), 4 AD3 (hiz), 5 AD4 (hiz), 6 AD5 (hiz), 7 AD6 (hiz), 8 AD7 (hiz), 9 GND (power) hidden to GND, 10 A8 (in), 11 A9 (in), 12 CE2 (in), 13 CE1 (in), 14 CS (in), 15 ALE (in), 16 WR (in), 17 RD (in), 18 VCC (power) hidden to VCC

## 8202
designator U?
footprint DIP-40
pins: 1 AH4 (in), 2 AH3 (in), 3 AH2 (in), 4 AH1 (in), 5 AH0 (in), 6 AL0 (in), 7 OUT0 (out), 8 AL1 (in), 9 OUT1 (out), 10 AL2 (in), 11 OUT2 (out), 12 AL3 (in), 13 OUT3 (out), 14 AL4 (in), 15 OUT4 (out), 16 AL5 (in), 17 OUT5 (out), 18 AL6/P3 (in), 19 OUT6 (out), 20 GND (power) hidden to GND, 21 RAS0 (out), 22 RAS1 (out), 23 RAS2 (out), 24 B0 (in), 25 B1/OP1 (in), 26 RAS3 (out), 27 CAS (out), 28 WE (out), 29 XACK (out), 30 SACK (out), 31 WR (in), 32 ~{RD}/S1 (in), 33 PCS (in), 34 RFRQ/A (in), 35 N.C., 36 X0/OP2 (io), 37 X1/CLK (io), 38 AH6 (in), 39 AH5 (in), 40 VCC (power) hidden to VCC

## 8203
designator U?
footprint DIP-40
pins: 1 AH4 (in), 2 AH3 (in), 3 AH2 (in), 4 AH1 (in), 5 AH0 (in), 6 AL0 (in), 7 OUT0 (out), 8 AL1 (in), 9 OUT1 (out), 10 AL2 (in), 11 OUT2 (out), 12 AL3 (in), 13 OUT3 (out), 14 AL4 (in), 15 OUT4 (out), 16 AL5 (in), 17 OUT5 (out), 18 AL6 (in), 19 OUT6 (out), 20 GND (power) hidden to GND, 21 RAS0 (out), 22 RAS1 (out), 23 RS2/O7 (out), 24 B0/AL7 (in), 25 BO1/H7 (in), 26 ~{RAS3}B0 (io), 27 CAS (out), 28 WE (out), 29 XACK (out), 30 SACK (out), 31 WR (in), 32 ~{RD}/S1 (in), 33 PCS (in), 34 RFRQ/A (in), 35 16K~{64K} (in), 36 X0/OP2 (io), 37 X1/CLK (io), 38 AH6 (in), 39 AH5 (in), 40 VCC (power) hidden to VCC

## 8205
designator U?
footprint DIP-16
pins: 1 A0 (in), 2 A1 (in), 3 A2 (in), 4 E1 (in), 5 E2 (in), 6 E3 (in), 7 O7 (out), 8 GND (power) hidden to GND, 9 O6 (out), 10 O5 (out), 11 O4 (out), 12 O3 (out), 13 O2 (out), 14 O1 (out), 15 O0 (out), 16 VCC (power) hidden to VCC

## 8206
designator U?
footprint JEDECA-68
pins: 1 DI0 (in), 2 STB (in), 3 SEDCU (in), 4 M/~{S} (in), 5 C/SYI0 (in), 6 C/SYI1 (in), 7 C/SYI2 (in), 8 C/SYI3 (in), 9 C/SYI4 (in), 10 C/SYI5 (in), 11 C/SYI6 (in), 12 C/SYI7 (in), 13 PP0PO0 (in), 14 PP1PO1 (in), 15 PP2NS0 (in), 16 PP3NS1 (in), 17 PP4/CE (io), 18 PP5 (in), 19 PP6 (in), 20 PP7 (in), 21 R/~{W} (in), 22 ERROR (out), 23 S/C/P0 (out), 24 S/C/P1 (out), 25 S/C/P2 (out), 26 VSS (in), 27 S/C/P3 (out), 28 S/C/P4 (out), 29 S/C/P5 (out), 30 S/C/P6 (out), 31 S/C/P7 (out), 32 BM1 (in), 33 BM0 (in), 34 WZ (in), 35 DO/I15 (hiz), 36 DO/I14 (hiz), 37 DO/I13 (hiz), 38 DO/I12 (hiz), 39 DO/I11 (hiz), 40 DO/I10 (hiz), 41 DO/I9 (hiz), 42 DO/I8 (hiz), 43 VSS (in), 44 DO/I7 (hiz), 45 DO/I6 (hiz), 46 DO/I5 (hiz), 47 DO/I4 (hiz), 48 DO/I3 (hiz), 49 DO/I2 (hiz), 50 DO/I1 (hiz), 51 DO/I0 (hiz), 52 CRCT (in), 53 DI15 (in), 54 DI14 (in), 55 DI13 (in), 56 DI12 (in), 57 DI11 (in), 58 DI10 (in), 59 DI9 (in), 60 VCC (power) hidden to VCC, 61 DI8 (in), 62 DI7 (in), 63 DI6 (in), 64 DI5 (in), 65 DI4 (in), 66 DI3 (in), 67 DI2 (in), 68 DI1 (in)

## 8207
designator U?
footprint JEDECA-68
pins: 1 LEN (out), 2 X/ACKA (out), 3 X/ACKB (out), 4 ACKA/W (out), 5 ACKB/R (out), 6 DBM (out), 7 ESTB (out), 8 LOCK (in), 9 VCC (in), 10 CE (in), 11 ERROR (in), 12 MUX/PC (out), 13 PSEL (out), 14 PSEN (out), 15 WE (out), 16 FWD (in), 17 RESET (in), 18 CAS0 (out), 19 CAS1 (out), 20 CAS2 (out), 21 CAS3 (out), 22 RAS0 (out), 23 RAS1 (out), 24 RAS2 (out), 25 RAS3 (out), 26 VSS (in), 27 AO8 (out), 28 AO7 (out), 29 AO6 (out), 30 AO5 (out), 31 AO4 (out), 32 AO3 (out), 33 AO2 (out), 34 AO1 (out), 35 AO0 (out), 36 BS0 (in), 37 BS1 (in), 38 AL0 (in), 39 AL1 (in), 40 AL2 (in), 41 AL3 (in), 42 AL4 (in), 43 VCC (in), 44 AL5 (in), 45 AL6 (in), 46 AL7 (in), 47 AL8 (in), 48 AH0 (in), 49 AH1 (in), 50 AH2 (in), 51 AH3 (in), 52 AH4 (in), 53 AH5 (in), 54 AH6 (in), 55 AH7 (in), 56 AH8 (in), 57 PDI (in), 58 RFRQ (in), 59 CLK (in), 60 VSS (in), 61 RDB (in), 62 WRB (in), 63 PEB (in), 64 PCTLB (in), 65 RDA (in), 66 WRA (in), 67 PEA (in), 68 PCTLA (in)

## 8212
designator U?
footprint DIP-24
pins: 1 DS1 (in), 2 MD (in), 3 DI1 (in), 4 DO1 (hiz), 5 DI2 (in), 6 DO2 (hiz), 7 DI3 (in), 8 DO3 (hiz), 9 DI4 (in), 10 DO4 (hiz), 11 STB (in), 12 GND (power) hidden to GND, 13 DS2 (in), 14 CLR (in), 15 DO5 (hiz), 16 DI5 (in), 17 DO6 (hiz), 18 DI6 (in), 19 DO7 (hiz), 20 DI7 (in), 21 DO8 (hiz), 22 DI8 (in), 23 INT (out), 24 VCC (power) hidden to VCC

## 8216
designator U?
footprint DIP-16
pins: 1 CS (in), 2 DO0 (hiz), 3 DB0 (hiz), 4 DI0 (hiz), 5 DO1 (hiz), 6 DB1 (hiz), 7 DI1 (hiz), 8 GND (power) hidden to GND, 9 DI2 (hiz), 10 DB2 (hiz), 11 DO2 (hiz), 12 DI3 (hiz), 13 DB3 (hiz), 14 DO3 (hiz), 15 DIEN (in), 16 VCC (power) hidden to VCC

## 8218
designator U?
footprint DIP-28
pins: 1 INIT (in), 2 N.C., 3 XSTR (in), 4 XCP (in), 5 XCY (out), 6 IOWR (in), 7 MWTR (in), 8 IORR (in), 9 MRDR (in), 10 ANYR (out), 11 RDD (out), 12 MRDC (out), 13 IORC (out), 14 GND (power) hidden to GND, 15 DLYADJ (in), 16 MWTC (out), 17 IOWC (out), 18 BUSY (io), 19 ADEN (out), 20 BCLK (in), 21 BREQ (out), 22 BPRN (in), 23 BPRO (out), 24 BCR2 (in), 25 BCR1 (in), 26 RSTB (in), 27 OVRD (in), 28 VCC (power) hidden to VCC